# Altium schematic symbol library HJ_AD_SchLib.SchLib: 600 symbols (part 2 of 2)
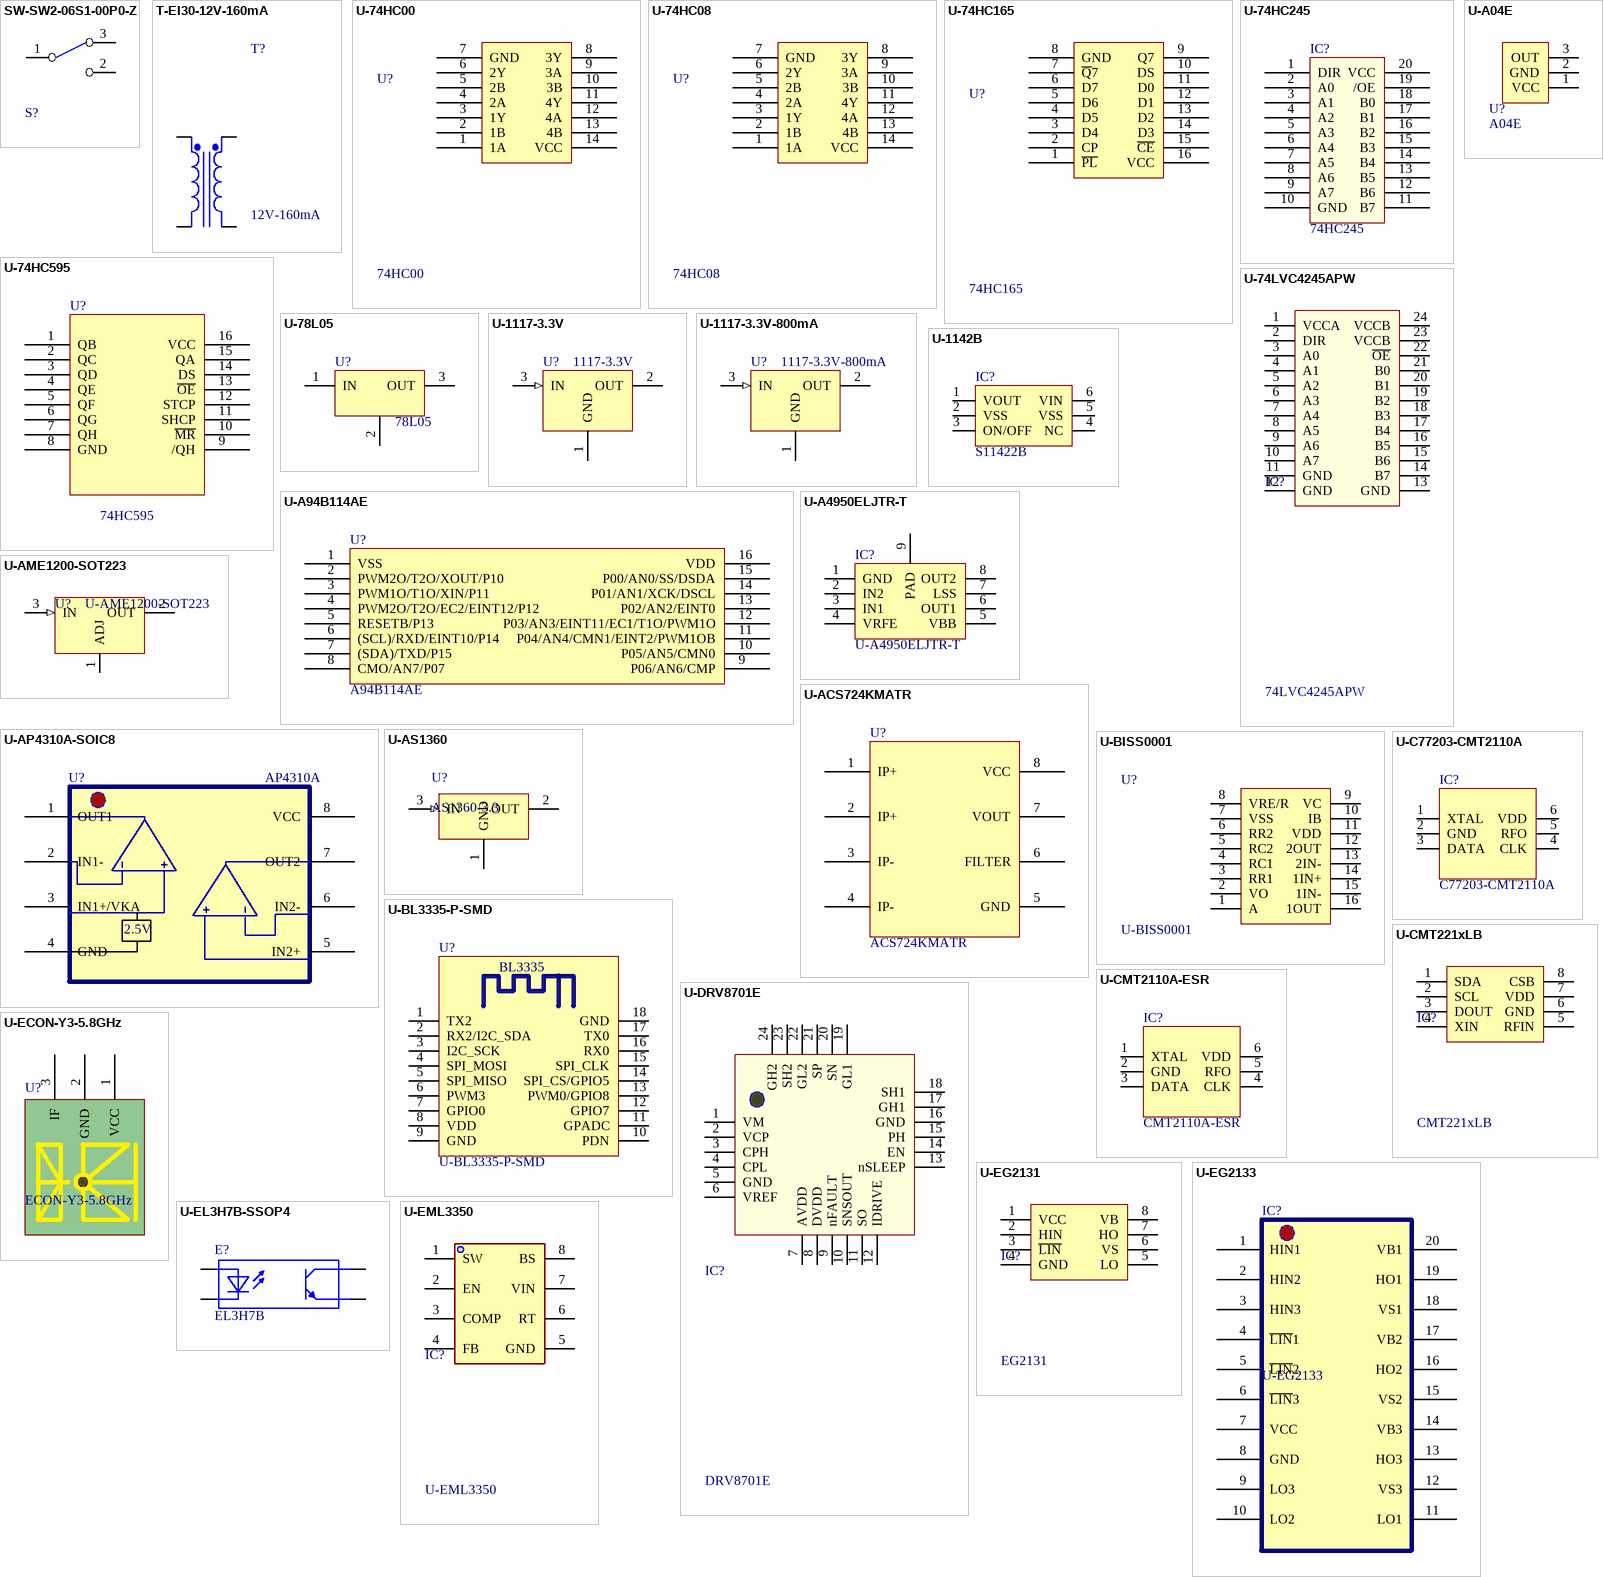
[diagram p22: symbols SW-SW2-06S1-00P0-Z to U-EML3350]

## U-EG2133
designator IC?
TSSOP20
footprint TSSOP20
pins: 1 HIN1, 2 HIN2, 3 HIN3, 4 ~{LIN}1, 5 ~{LIN}2, 6 ~{LIN}3, 7 VCC, 8 GND, 9 LO3, 10 LO2, 11 LO1, 12 VS3, 13 HO3, 14 VB3, 15 VS2, 16 HO2, 17 VB2, 18 VS1, 19 HO1, 20 VB1

## U-EL3H7B-SSOP4
designator E?, comment EL3H7B
SSOP4
footprint SSOP4
pins: 1, 2, 3, 4

## U-EML3350
designator IC?
SOP-8L
footprint SOP8(散热焊盘)
pins: 1 SW, 2 EN, 3 COMP, 4 FB, 5 GND, 6 RT, 7 VIN, 8 BS, 9 PAD hidden to GND

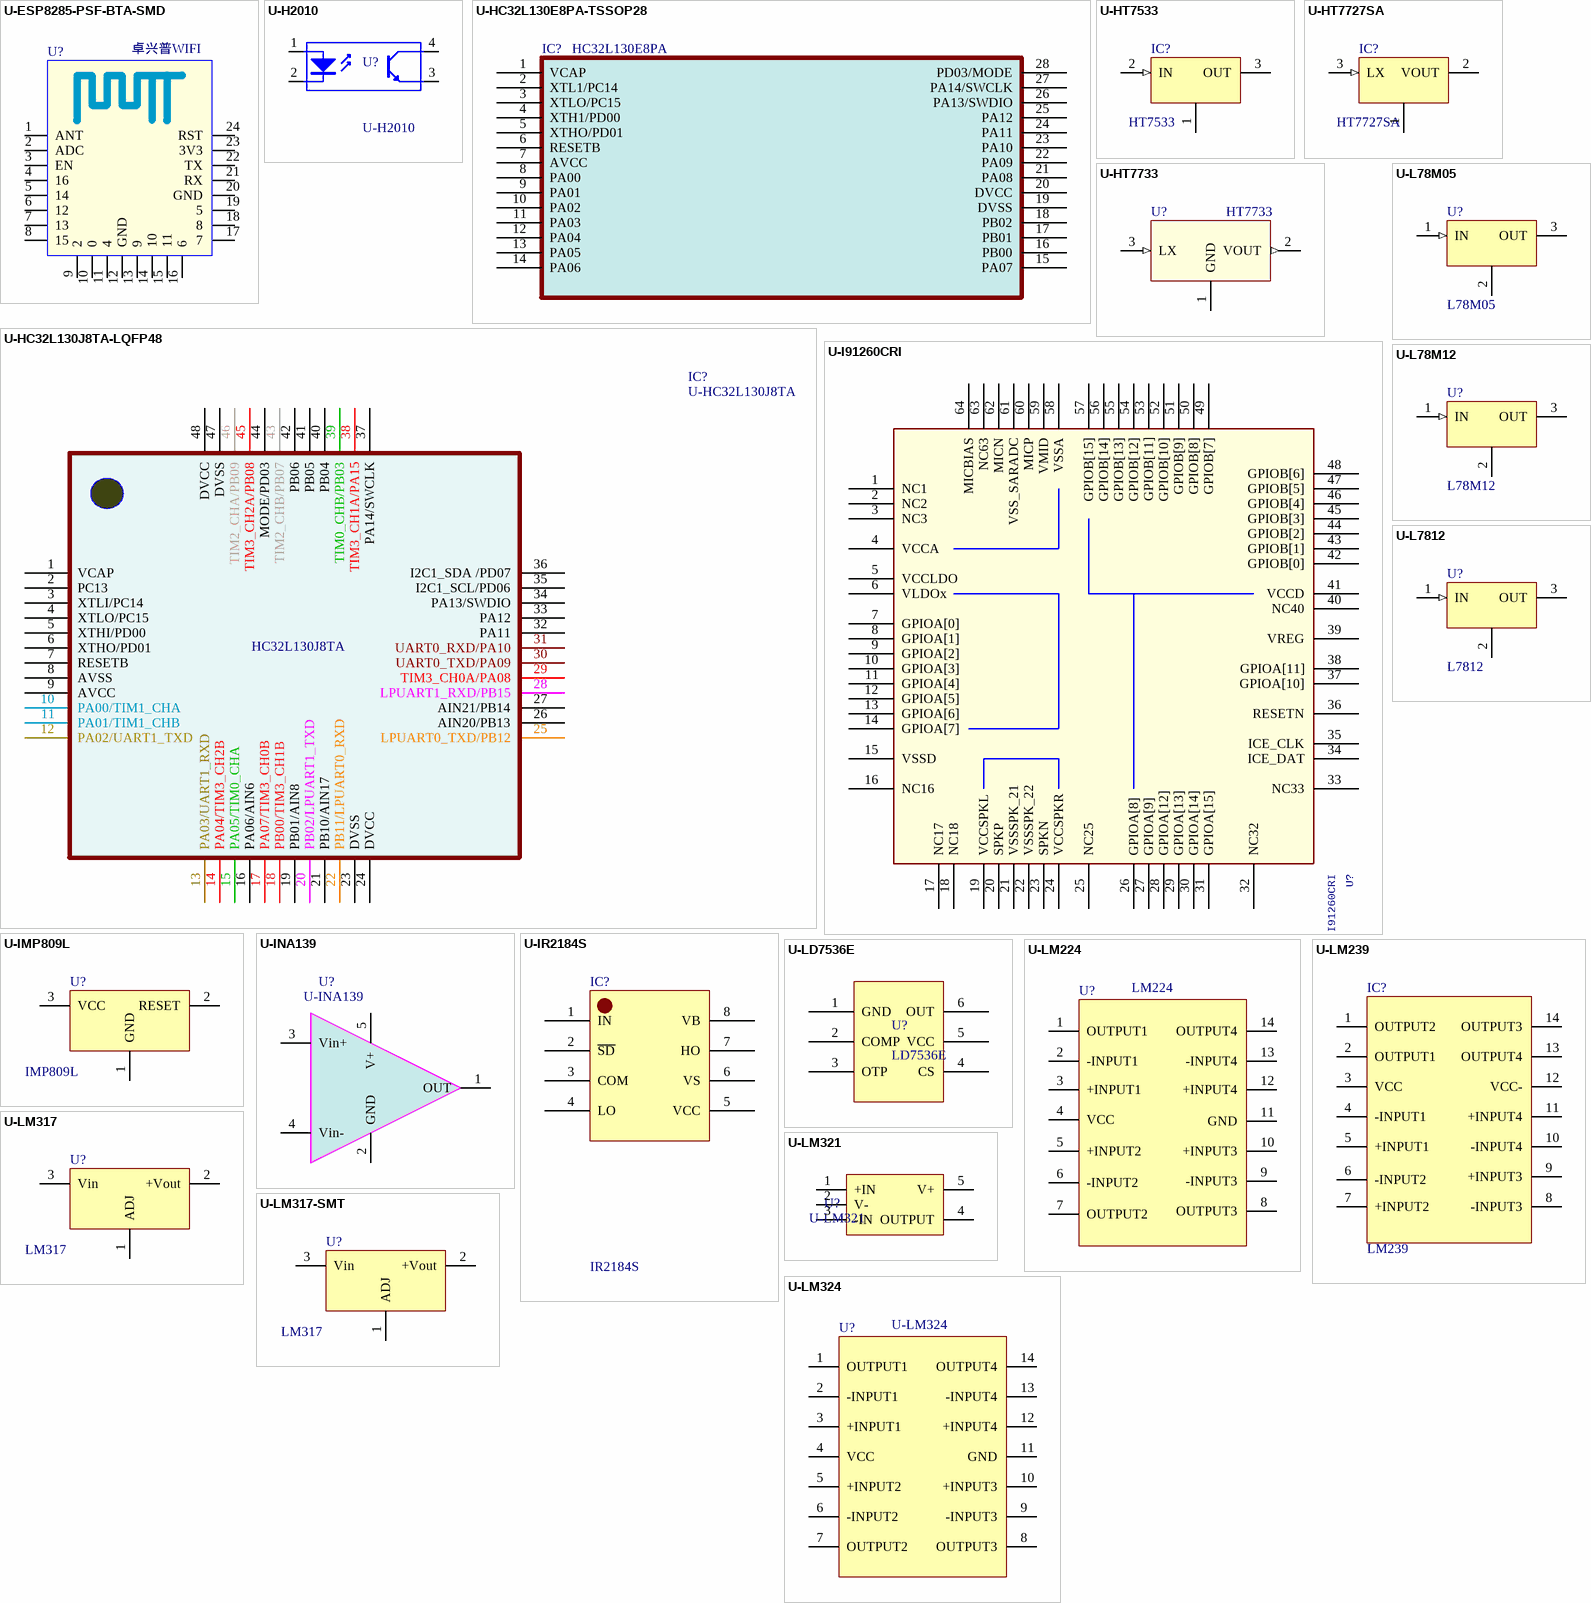
[diagram p12: symbols U-ESP8285-PSF-BTA-SMD to U-LM324]

## U-ESP8285-PSF-BTA-SMD
designator U?, comment 卓兴普WIFI
footprint U-ESP8285-PSF-BTA-SMD (Footprint not found)
pins: 1 ANT, 2 ADC, 3 EN, 4 16, 5 14, 6 12, 7 13, 8 15, 9 2, 10 0, 11 4, 12 GND, 13 9, 14 10, 15 11, 16 6, 17 7, 18 8, 19 5, 20 GND, 21 RX, 22 TX, 23 3V3, 24 RST

## U-H2010
designator U?
footprint H2010
pins: 1 A "Anode", 2 K "Cathode", 3 E "Emitter", 4 C "Collector"

## U-HC32L130E8PA-TSSOP28
designator IC?, comment HC32L130E8PA
TSSOP28
footprint TSSOP28
pins: 1 VCAP, 2 XTL1/PC14, 3 XTLO/PC15, 4 XTH1/PD00, 5 XTHO/PD01, 6 RESETB, 7 AVCC, 8 PA00, 9 PA01, 10 PA02, 11 PA03, 12 PA04, 13 PA05, 14 PA06, 15 PA07, 16 PB00, 17 PB01, 18 PB02, 19 DVSS, 20 DVCC, 21 PA08, 22 PA09, 23 PA10, 24 PA11, 25 PA12, 26 PA13/SWDIO, 27 PA14/SWCLK, 28 PD03/MODE

## U-HC32L130J8TA-LQFP48
designator IC?, comment U-HC32L130J8TA
U-HC32L130J8TA-LQFP48
footprint LQFP48
pins: 1 VCAP, 2 PC13, 3 XTLI/PC14, 4 XTLO/PC15, 5 XTHI/PD00, 6 XTHO/PD01, 7 RESETB, 8 AVSS, 9 AVCC, 10 PA00/TIM1_CHA, 11 PA01/TIM1_CHB, 12 PA02/UART1_TXD, 13 PA03/UART1_RXD, 14 PA04/TIM3_CH2B, 15 PA05/TIM0_CHA  , 16 PA06/AIN6  , 17 PA07/TIM3_CH0B  , 18 PB00/TIM3_CH1B  , 19 PB01/AIN8  , 20 PB02/LPUART1_TXD  , 21 PB10/AIN17  , 22 PB11/LPUART0_RXD  , 23 DVSS, 24 DVCC, 25 LPUART0_TXD/PB12, 26 AIN20/PB13, 27 AIN21/PB14, 28 LPUART1_RXD/PB15, 29 TIM3_CH0A/PA08, 30 UART0_TXD/PA09, 31 UART0_RXD/PA10, 32 PA11, 33 PA12, 34 PA13/SWDIO, 35 I2C1_SCL/PD06, 36 I2C1_SDA /PD07, 37 PA14/SWCLK, 38 TIM3_CH1A/PA15, 39 TIM0_CHB/PB03, 40 PB04, 41 PB05, 42 PB06, 43 TIM2_CHB/PB07, 44 MODE/PD03, 45 TIM3_CH2A/PB08, 46 TIM2_CHA/PB09, 47 DVSS, 48 DVCC
text: HC32L130J8TA

## U-HT7533
designator IC?, comment HT7533
SOT89
footprint SOT89
pins: 1 GND, 2 IN (in), 3 OUT (power)

## U-HT7727SA
designator IC?, comment HT7727SA
SOT89
footprint SOT89
pins: 1 GND, 2 VOUT (power), 3 LX (in)

## U-HT7733
designator U?, comment HT7733
SOT89
footprint SOT89
pins: 1 GND (power), 2 VOUT (out), 3 LX (in)

## U-I91260CRI
designator U?, comment I91260CRI
LQFP64
footprint LC-LQFP-64_7x7x04P
pins: 1 NC1, 2 NC2, 3 NC3, 4 VCCA, 5 VCCLDO, 6 VLDOx, 7 GPIOA[0], 8 GPIOA[1], 9 GPIOA[2], 10 GPIOA[3], 11 GPIOA[4], 12 GPIOA[5], 13 GPIOA[6], 14 GPIOA[7], 15 VSSD, 16 NC16, 17 NC17, 18 NC18, 19 VCCSPKL, 20 SPKP, 21 VSSSPK_21, 22 VSSSPK_22, 23 SPKN, 24 VCCSPKR, 25 NC25, 26 GPIOA[8], 27 GPIOA[9], 28 GPIOA[12], 29 GPIOA[13], 30 GPIOA[14], 31 GPIOA[15], 32 NC32, 33 NC33, 34 ICE_DAT, 35 ICE_CLK, 36 RESETN, 37 GPIOA[10], 38 GPIOA[11], 39 VREG, 40 NC40, 41 VCCD, 42 GPIOB[0], 43 GPIOB[1], 44 GPIOB[2], 45 GPIOB[3], 46 GPIOB[4], 47 GPIOB[5], 48 GPIOB[6], 49 GPIOB[7], 50 GPIOB[8], 51 GPIOB[9], 52 GPIOB[10], 53 GPIOB[11], 54 GPIOB[12], 55 GPIOB[13], 56 GPIOB[14], 57 GPIOB[15], 58 VSSA, 59 VMID, 60 MICP, 61 VSS_SARADC, 62 MICN, 63 NC63, 64 MICBIAS

## U-IMP809L
designator U?, comment IMP809L
SOT23
footprint SOT23-3
pins: 1 GND, 2 RESET, 3 VCC

## U-INA139
designator U?
SOT23-5
footprint SOT23-5
pins: 1 OUT, 2 GND, 3 Vin+, 4 Vin-, 5 V+

## U-IR2184S
designator IC?, comment IR2184S
SOP8
footprint SOP8
pins: 1 IN, 2 ~{SD}, 3 COM, 4 LO, 5 VCC, 6 VS, 7 HO, 8 VB

## U-L78M05
designator U?, comment L78M05
U-L78M05-DPAK
footprint DPAK
pins: 1 IN (in), 2 GND, 3 OUT (power)

## U-L78M12
designator U?, comment L78M12
U-L78M12-DPAK
footprint DPAK
pins: 1 IN (in), 2 GND, 3 OUT (power)

## U-L7812
designator U?, comment L7812
TO220-WHS
footprint TO220-WHS
pins: 1 IN (in), 2 GND, 3 OUT (power)

## U-LD7536E
designator U?, comment LD7536E
SOT23-6
footprint SOT23-6
pins: 1 GND, 2 COMP, 3 OTP, 4 CS, 5 VCC, 6 OUT

## U-LM224
designator U?, comment LM224
SOP14
footprint SOP14
pins: 1 OUTPUT1 "U?", 2 -INPUT1 "RST", 3 +INPUT1 "RST", 4 VCC "RST", 5 +INPUT2 "RST", 6 -INPUT2 "RST", 7 OUTPUT2 "RST", 8 OUTPUT3 "RST", 9 -INPUT3 "RST", 10 +INPUT3 "RST", 11 GND "RST", 12 +INPUT4 "RST", 13 -INPUT4 "RST", 14 OUTPUT4 "RST"

## U-LM239
designator IC?, comment LM239
SOP14
footprint SOP14
pins: 1 OUTPUT2 "RST", 2 OUTPUT1 "U?", 3 VCC "RST", 4 -INPUT1 "RST", 5 +INPUT1 "RST", 6 -INPUT2 "RST", 7 +INPUT2 "RST", 8 -INPUT3 "RST", 9 +INPUT3 "RST", 10 -INPUT4 "RST", 11 +INPUT4 "RST", 12 VCC- "RST", 13 OUTPUT4 "RST", 14 OUTPUT3 "RST"

## U-LM317
designator U?, comment LM317
TO220-WHS
footprint TO220-WHS
pins: 1 ADJ, 2 +Vout, 3 Vin

## U-LM317-SMT
designator U?, comment LM317
TO263
footprint TO263
pins: 1 ADJ, 2 +Vout, 3 Vin

## U-LM321
designator U?
SOT23-5
footprint SOT23-5
pins: 1 +IN, 2 V-, 3 -IN (power), 4 OUTPUT (power), 5 V+ (power)

## U-LM324
designator U?
U-LM324-SOIC14
footprint SOP14
pins: 1 OUTPUT1 "U?", 2 -INPUT1 "RST", 3 +INPUT1 "RST", 4 VCC "RST", 5 +INPUT2 "RST", 6 -INPUT2 "RST", 7 OUTPUT2 "RST", 8 OUTPUT3 "RST", 9 -INPUT3 "RST", 10 +INPUT3 "RST", 11 GND "RST", 12 +INPUT4 "RST", 13 -INPUT4 "RST", 14 OUTPUT4 "RST"

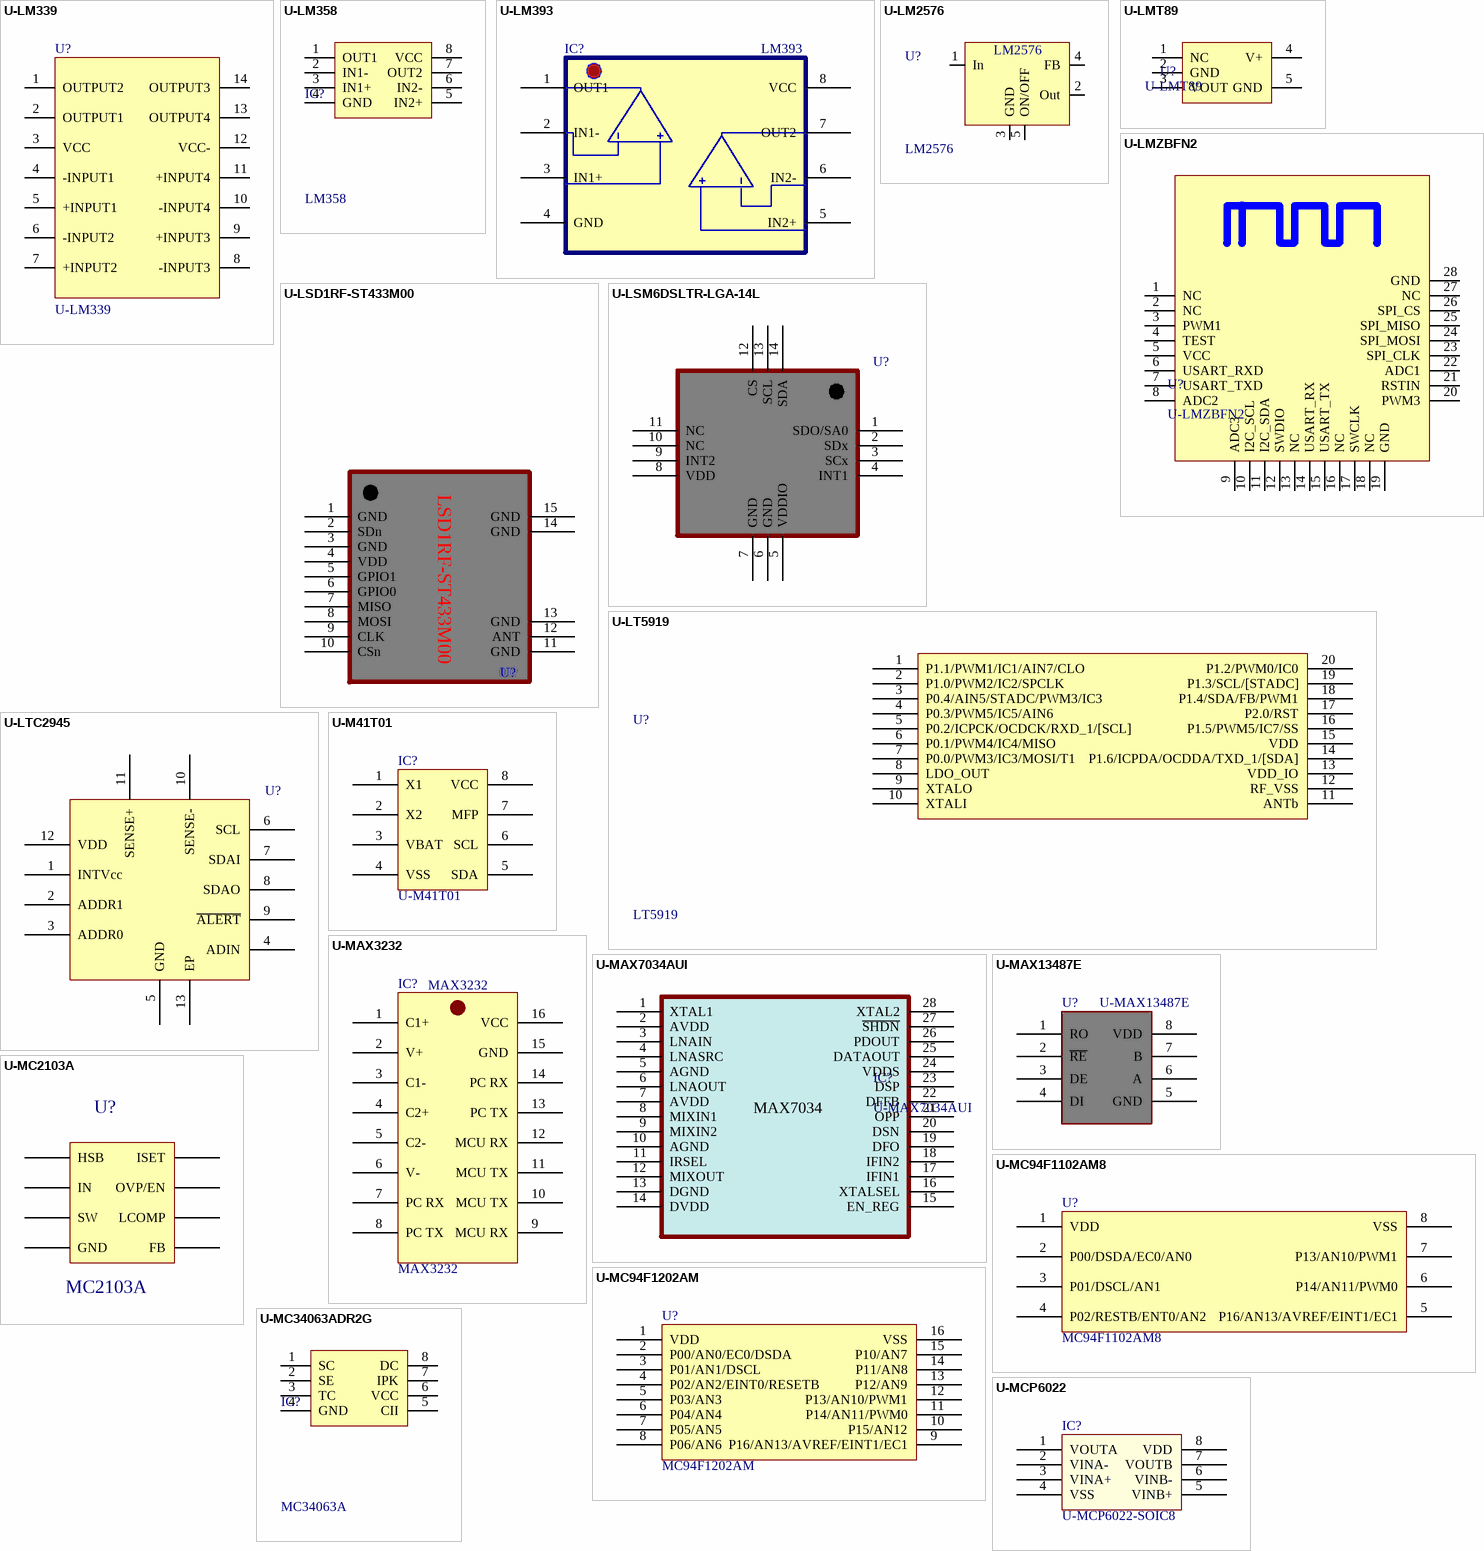
[diagram p13: symbols U-LM339 to U-MCP6022]

## U-LM339
designator U?
U-LM339-SOIC14
footprint SOP14
pins: 1 OUTPUT2 "RST", 2 OUTPUT1 "U?", 3 VCC "RST", 4 -INPUT1 "RST", 5 +INPUT1 "RST", 6 -INPUT2 "RST", 7 +INPUT2 "RST", 8 -INPUT3 "RST", 9 +INPUT3 "RST", 10 -INPUT4 "RST", 11 +INPUT4 "RST", 12 VCC- "RST", 13 OUTPUT4 "RST", 14 OUTPUT3 "RST"

## U-LM358
designator IC?, comment LM358
SOP8
footprint SOP8
pins: 1 OUT1, 2 IN1-, 3 IN1+, 4 GND, 5 IN2+, 6 IN2-, 7 OUT2, 8 VCC

## U-LM393
designator IC?, comment LM393
SOP8
footprint SOP8
pins: 1 OUT1, 2 IN1-, 3 IN1+, 4 GND, 5 IN2+, 6 IN2-, 7 OUT2, 8 VCC

## U-LM2576
designator U?, comment LM2576
U-LM2576S-12-TO263
footprint TO263-5
pins: 1 In, 2 Out, 3 GND, 4 FB, 5 ON/OFF

## U-LMT89
designator U?
footprint SC70-5
pins: 1 NC, 2 GND, 3 VOUT (power), 4 V+ (power), 5 GND (power)

## U-LMZBFN2
designator U?
footprint LMZBFN2
pins: 1 NC, 2 NC, 3 PWM1, 4 TEST, 5 VCC, 6 USART_RXD, 7 USART_TXD, 8 ADC2, 9 ADC3, 10 I2C_SCL, 11 I2C_SDA, 12 SWDIO, 13 NC, 14 USART_RX, 15 USART_TX, 16 NC, 17 SWCLK, 18 NC, 19 GND, 20 PWM3, 21 RSTIN, 22 ADC1, 23 SPI_CLK, 24 SPI_MOSI, 25 SPI_MISO, 26 SPI_CS, 27 NC, 28 GND

## U-LSD1RF-ST433M00
designator U?, comment LSD1RF-ST433M00  (value not drawn)
footprint LSD1RF-ST433M00
pins: 1 GND, 2 SDn, 3 GND, 4 VDD, 5 GPIO1, 6 GPIO0, 7 MISO, 8 MOSI, 9 CLK, 10 CSn, 11 GND, 12 ANT, 13 GND, 14 GND, 15 GND

## U-LSM6DSLTR-LGA-14L
designator U?, comment LSM6DSLTR  (value not drawn)
footprint LGA-14L
pins: 1 SDO/SA0, 2 SDx, 3 SCx, 4 INT1, 5 VDDIO, 6 GND, 7 GND, 8 VDD, 9 INT2, 10 NC, 11 NC, 12 CS, 13 SCL, 14 SDA

## U-LT5919
designator U?, comment LT5919
TSSOP20
footprint TSSOP20
pins: 1 P1.1/PWM1/IC1/AIN7/CLO, 2 P1.0/PWM2/IC2/SPCLK, 3 P0.4/AIN5/STADC/PWM3/IC3, 4 P0.3/PWM5/IC5/AIN6, 5 P0.2/ICPCK/OCDCK/RXD_1/[SCL], 6 P0.1/PWM4/IC4/MISO, 7 P0.0/PWM3/IC3/MOSI/T1, 8 LDO_OUT, 9 XTALO, 10 XTALI, 11 ANTb, 12 RF_VSS, 13 VDD_IO, 14 P1.6/ICPDA/OCDDA/TXD_1/[SDA], 15 VDD, 16 P1.5/PWM5/IC7/SS, 17 P2.0/RST, 18 P1.4/SDA/FB/PWM1, 19 P1.3/SCL/[STADC], 20 P1.2/PWM0/IC0

## U-LTC2945
designator U?, comment LTC2945  (value not drawn)
footprint QFN12-3*3
pins: 1 INTVcc, 2 ADDR1, 3 ADDR0, 4 ADIN, 5 GND, 6 SCL, 7 SDAI, 8 SDAO, 9 ~{ALERT}, 10 SENSE-, 11 SENSE+, 12 VDD, 13 EP

## U-M41T01
designator IC?
SOP8
footprint SOP8
pins: 1 X1, 2 X2, 3 VBAT, 4 VSS, 5 SDA, 6 SCL, 7 MFP, 8 VCC

## U-MAX3232
designator IC?, comment MAX3232
U-MAX3232-SOP16
footprint SOP16
pins: 1 C1+, 2 V+, 3 C1-, 4 C2+, 5 C2-, 6 V-, 7 PC RX, 8 PC TX, 9 MCU RX, 10 MCU TX, 11 MCU TX, 12 MCU RX, 13 PC TX, 14 PC RX, 15 GND, 16 VCC

## U-MAX7034AUI
designator IC?
TSSOP28
footprint TSSOP28
pins: 1 XTAL1, 2 AVDD, 3 LNAIN, 4 LNASRC, 5 AGND, 6 LNAOUT, 7 AVDD, 8 MIXIN1, 9 MIXIN2, 10 AGND, 11 IRSEL, 12 MIXOUT, 13 DGND, 14 DVDD, 15 EN_REG, 16 XTALSEL, 17 IFIN1, 18 IFIN2, 19 DFO, 20 DSN, 21 OPP, 22 DFFB, 23 DSP, 24 VDDS, 25 DATAOUT, 26 PDOUT, 27 ~{SHDN}, 28 XTAL2
text: MAX7034

## U-MAX13487E
designator U?
SOP8
footprint SOP8
pins: 1 RO, 2 ~{RE}, 3 DE, 4 DI, 5 GND, 6 A, 7 B, 8 VDD

## U-MC94F1102AM8
designator U?, comment MC94F1102AM8
SOP8
footprint SOP8
pins: 1 VDD, 2 P00/DSDA/EC0/AN0 (hiz), 3 P01/DSCL/AN1, 4 P02/RESTB/ENT0/AN2, 5 P16/AN13/AVREF/EINT1/EC1, 6 P14/AN11/PWM0, 7 P13/AN10/PWM1, 8 VSS

## U-MC94F1202AM
designator U?, comment MC94F1202AM
SOP16
footprint SOP16
pins: 1 VDD, 2 P00/AN0/EC0/DSDA, 3 P01/AN1/DSCL, 4 P02/AN2/EINT0/RESETB, 5 P03/AN3, 6 P04/AN4, 7 P05/AN5, 8 P06/AN6, 9 P16/AN13/AVREF/EINT1/EC1, 10 P15/AN12, 11 P14/AN11/PWM0, 12 P13/AN10/PWM1, 13 P12/AN9, 14 P11/AN8, 15 P10/AN7, 16 VSS

## U-MC2103A
designator U?, comment MC2103A
SOP-8EP
footprint SOP-8EP
pins: 1 HSB, 2 IN, 3 SW, 4 GND, 5 FB, 6 LCOMP, 7 OVP/EN, 8 ISET

## U-MC34063ADR2G
designator IC?, comment MC34063A
SOP8
footprint SOP8
pins: 1 SC, 2 SE, 3 TC, 4 GND, 5 CII, 6 VCC, 7 IPK, 8 DC

## U-MCP6022
designator IC?, comment U-MCP6022-SOIC8
SOP8
footprint SOP8
pins: 1 VOUTA, 2 VINA-, 3 VINA+, 4 VSS, 5 VINB+, 6 VINB-, 7 VOUTB, 8 VDD

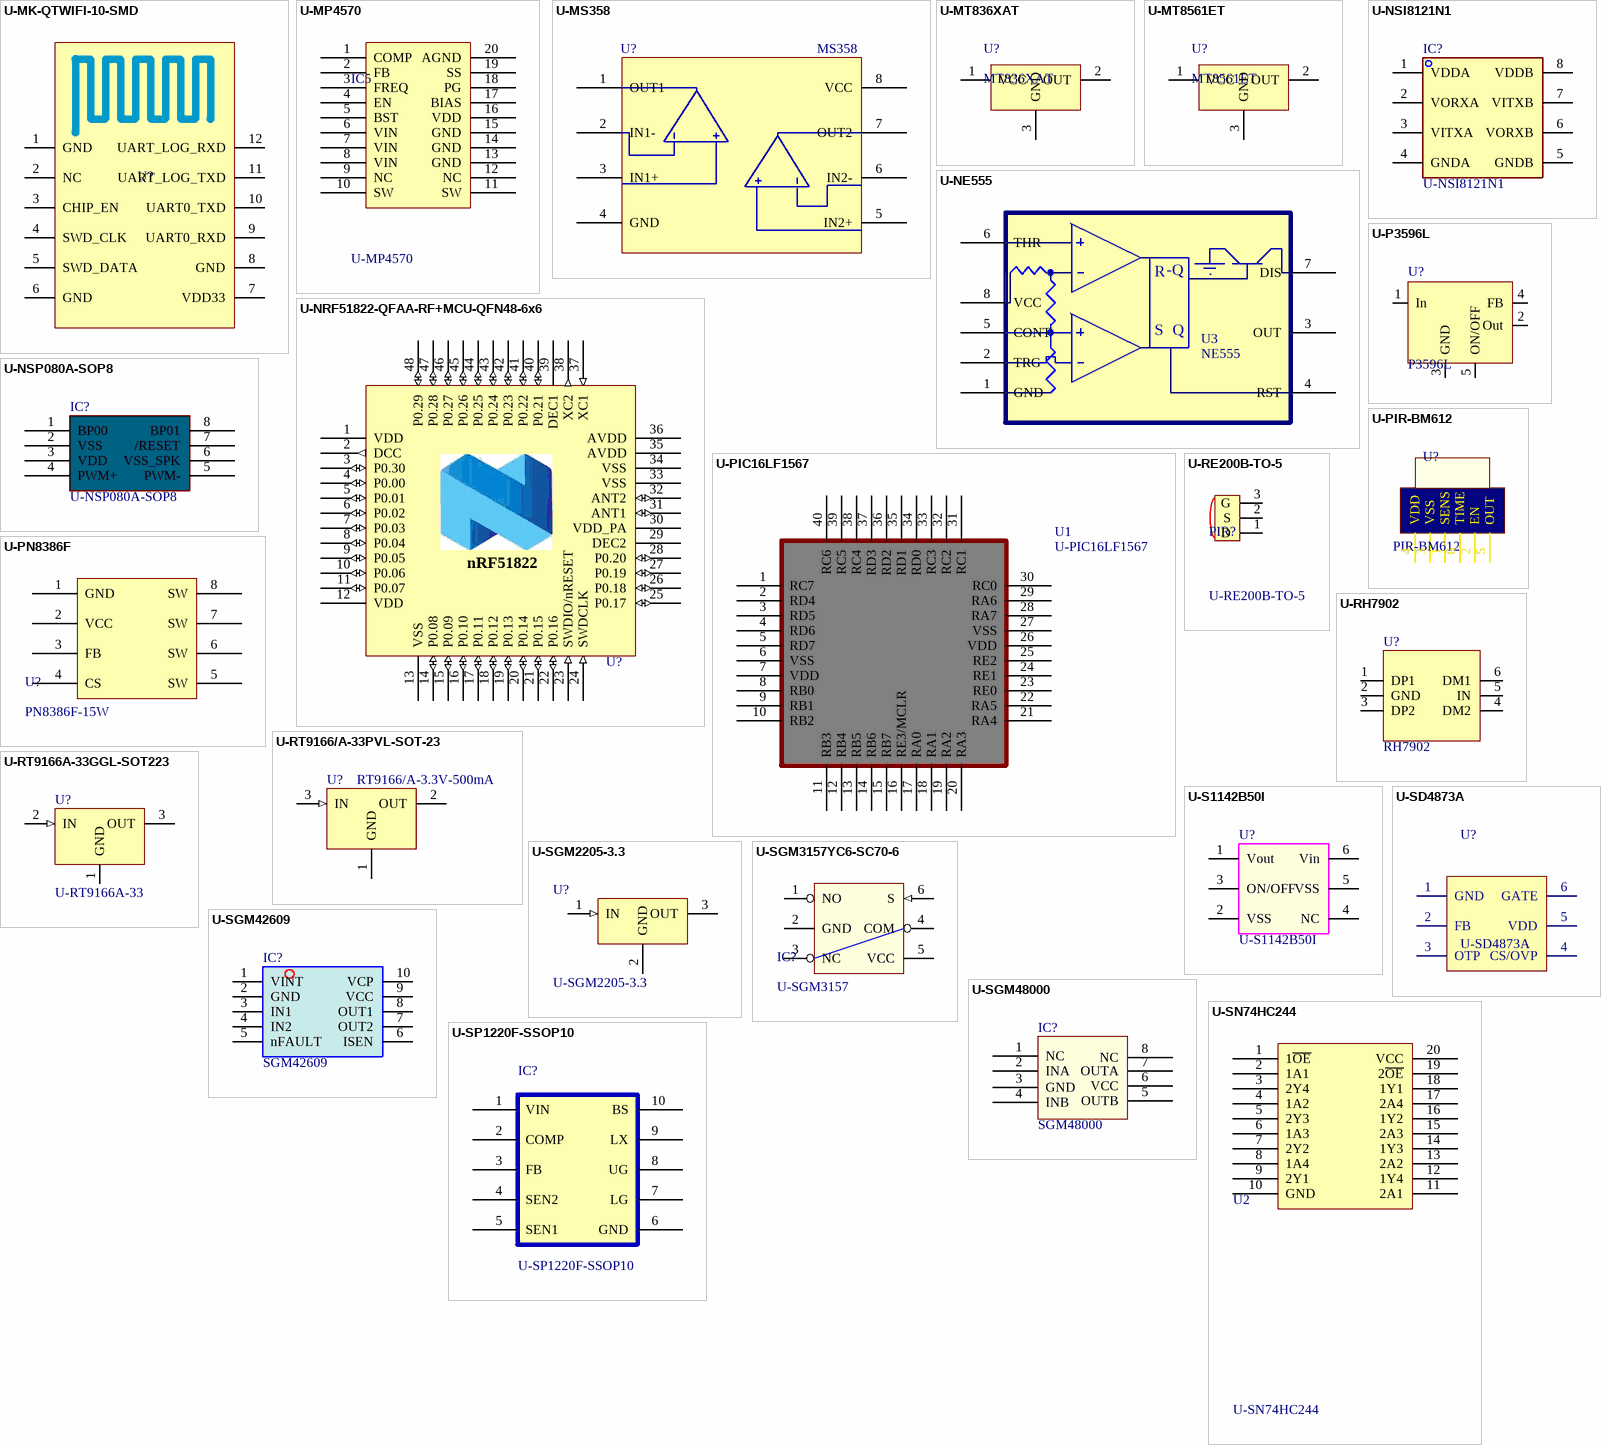
[diagram p14: symbols U-MK-QTWIFI-10-SMD to U-SP1220F-SSOP10]

## U-MK-QTWIFI-10-SMD
designator U?
footprint U-MK-QTWIFI-10-SMD
pins: 1 GND, 2 NC, 3 CHIP_EN, 4 SWD_CLK, 5 SWD_DATA, 6 GND, 7 VDD33, 8 GND, 9 UART0_RXD, 10 UART0_TXD, 11 UART_LOG_TXD, 12 UART_LOG_RXD

## U-MP4570
designator IC5
TSSOP-20EP
footprint TSS0P20-EP
pins: 0 hidden, 1 COMP, 2 FB, 3 FREQ, 4 EN, 5 BST, 6 VIN, 7 VIN, 8 VIN, 9 NC, 10 SW, 11 SW, 12 NC, 13 GND, 14 GND, 15 GND, 16 VDD, 17 BIAS, 18 PG, 19 SS, 20 AGND

## U-MS358
designator U?, comment MS358
SOP8
footprint SOP8
pins: 1 OUT1, 2 IN1-, 3 IN1+, 4 GND, 5 IN2+, 6 IN2-, 7 OUT2, 8 VCC

## U-MT836XAT
designator U?, comment MT836XAT
SOT23-3
footprint SOT23-3
pins: 1 VCC, 2 OUT (power), 3 GND

## U-MT8561ET
designator U?, comment MT8561ET
SOT23-3
footprint SOT23-3
pins: 1 VCC, 2 OUT (power), 3 GND

## U-NE555
designator U3, comment NE555
SOP8
footprint SOP8
pins: 1 GND, 2 TRG, 3 OUT, 4 RST, 5 CONT, 6 THR, 7 DIS, 8 VCC
text: R; -Q; S; Q

## U-NRF51822-QFAA-RF+MCU-QFN48-6x6
designator U?, comment U-NRF51822  (value not drawn)
QFN48
footprint QFN48-6*6
pins: 1 VDD (power), 2 DCC (out), 3 P0.30 (io), 4 P0.00 (io), 5 P0.01 (io), 6 P0.02 (io), 7 P0.03 (io), 8 P0.04 (io), 9 P0.05 (io), 10 P0.06 (io), 11 P0.07 (io), 12 VDD (power), 13 VSS (power), 14 P0.08 (io), 15 P0.09 (io), 16 P0.10 (io), 17 P0.11 (io), 18 P0.12 (io), 19 P0.13 (io), 20 P0.14 (io), 21 P0.15 (io), 22 P0.16 (io), 23 SWDIO/nRESET (in), 24 SWDCLK (in), 25 P0.17 (io), 26 P0.18 (io), 27 P0.19 (io), 28 P0.20 (io), 29 DEC2 (power), 30 VDD_PA (power), 31 ANT1 (io), 32 ANT2 (io), 33 VSS (power), 34 VSS (power), 35 AVDD (power), 36 AVDD (power), 37 XC1 (in), 38 XC2 (out), 39 DEC1 (power), 40 P0.21 (io), 41 P0.22 (io), 42 P0.23 (io), 43 P0.24 (io), 44 P0.25 (io), 45 P0.26 (io), 46 P0.27 (io), 47 P0.28 (io), 48 P0.29 (io), 49 (power) hidden to GND
text: nRF51822

## U-NSI8121N1
designator IC?
SOIC-8
footprint SOIC8
pins: 1 VDDA, 2 VORXA, 3 VITXA, 4 GNDA, 5 GNDB, 6 VORXB, 7 VITXB, 8 VDDB

## U-NSP080A-SOP8
designator IC?
SOP8
footprint SOP8
pins: 1 BP00, 2 VSS, 3 VDD, 4 PWM+, 5 PWM-, 6 VSS_SPK, 7 /RESET, 8 BP01

## U-P3596L
designator U?, comment P3596L
TO263-5
footprint TO263-5
pins: 1 In, 2 Out, 3 GND, 4 FB, 5 ON/OFF

## U-PIC16LF1567
designator U1
footprint UQFN40 (Footprint not found)
pins: 1 RC7, 2 RD4, 3 RD5, 4 RD6, 5 RD7, 6 VSS, 7 VDD, 8 RB0, 9 RB1, 10 RB2, 11 RB3, 12 RB4, 13 RB5, 14 RB6, 15 RB7, 16 RE3/MCLR, 17 RA0, 18 RA1, 19 RA2, 20 RA3, 21 RA4, 22 RA5, 23 RE0, 24 RE1, 25 RE2, 26 VDD, 27 VSS, 28 RA7, 29 RA6, 30 RC0, 31 RC1, 32 RC2, 33 RC3, 34 RD0, 35 RD1, 36 RD2, 37 RD3, 38 RC4, 39 RC5, 40 RC6

## U-PIR-BM612
designator U?, comment PIR-BM612
footprint PIR-BM612
pins: 1 SENS, 2 EN, 3 VSS, 4 VDD, 5 OUT, 6 TIME
text: +

## U-PN8386F
designator U?, comment PN8386F-15W
SOP8
footprint SOP8
pins: 1 GND, 2 VCC, 3 FB, 4 CS, 5 SW, 6 SW, 7 SW, 8 SW

## U-RE200B-TO-5
designator PIR?
footprint TO-5
pins: 1 D, 2 S, 3 G

## U-RH7902
designator U?, comment RH7902
SOT23-6
footprint SOT23-6
pins: 1 DP1, 2 GND, 3 DP2, 4 DM2, 5 IN, 6 DM1

## U-RT9166/A-33PVL-SOT-23
designator U?, comment RT9166/A-3.3V-500mA
SOT-23
footprint SOT23-3
pins: 1 GND, 2 OUT (power), 3 IN (in)

## U-RT9166A-33GGL-SOT223
designator U?, comment U-RT9166A-33
SOT223
footprint SOT223
pins: 1 GND, 2 IN (in), 3 OUT (power)

## U-S1142B50I
designator U?
footprint HSOP-6
pins: 1 Vout, 2 VSS, 3 ON/OFF, 4 NC, 5 VSS, 6 Vin

## U-SD4873A
designator U?
SOT23-6
footprint SOT23-6
pins: 1 GND, 2 FB, 3 OTP, 4 CS/OVP, 5 VDD, 6 GATE

## U-SGM2205-3.3
designator U?
SOT223
footprint SOT223
pins: 1 IN (in), 2 GND, 3 OUT (power)

## U-SGM3157YC6-SC70-6
designator IC?, comment U-SGM3157
SC70-6
footprint SC70-6
pins: 1 NO, 2 GND, 3 NC, 4 COM, 5 VCC, 6 S (in)

## U-SGM42609
designator IC?, comment SGM42609
footprint MSOP10
pins: 1 VINT, 2 GND, 3 IN1, 4 IN2, 5 nFAULT, 6 ISEN, 7 OUT2, 8 OUT1, 9 VCC, 10 VCP

## U-SGM48000
designator IC?, comment SGM48000
SOP8
footprint SOP8
pins: 1 NC, 2 INA, 3 GND, 4 INB, 5 OUTB, 6 VCC, 7 OUTA, 8 NC

## U-SN74HC244
designator U2
TSSOP20
footprint TSSOP20
pins: 1 1~{OE}, 2 1A1, 3 2Y4, 4 1A2, 5 2Y3, 6 1A3, 7 2Y2, 8 1A4, 9 2Y1, 10 GND, 11 2A1, 12 1Y4, 13 2A2, 14 1Y3, 15 2A3, 16 1Y2, 17 2A4, 18 1Y1, 19 2~{OE}, 20 VCC

## U-SP1220F-SSOP10
designator IC?
SSOP10
footprint SSOP10
pins: 1 VIN, 2 COMP, 3 FB, 4 SEN2, 5 SEN1, 6 GND, 7 LG, 8 UG, 9 LX, 10 BS

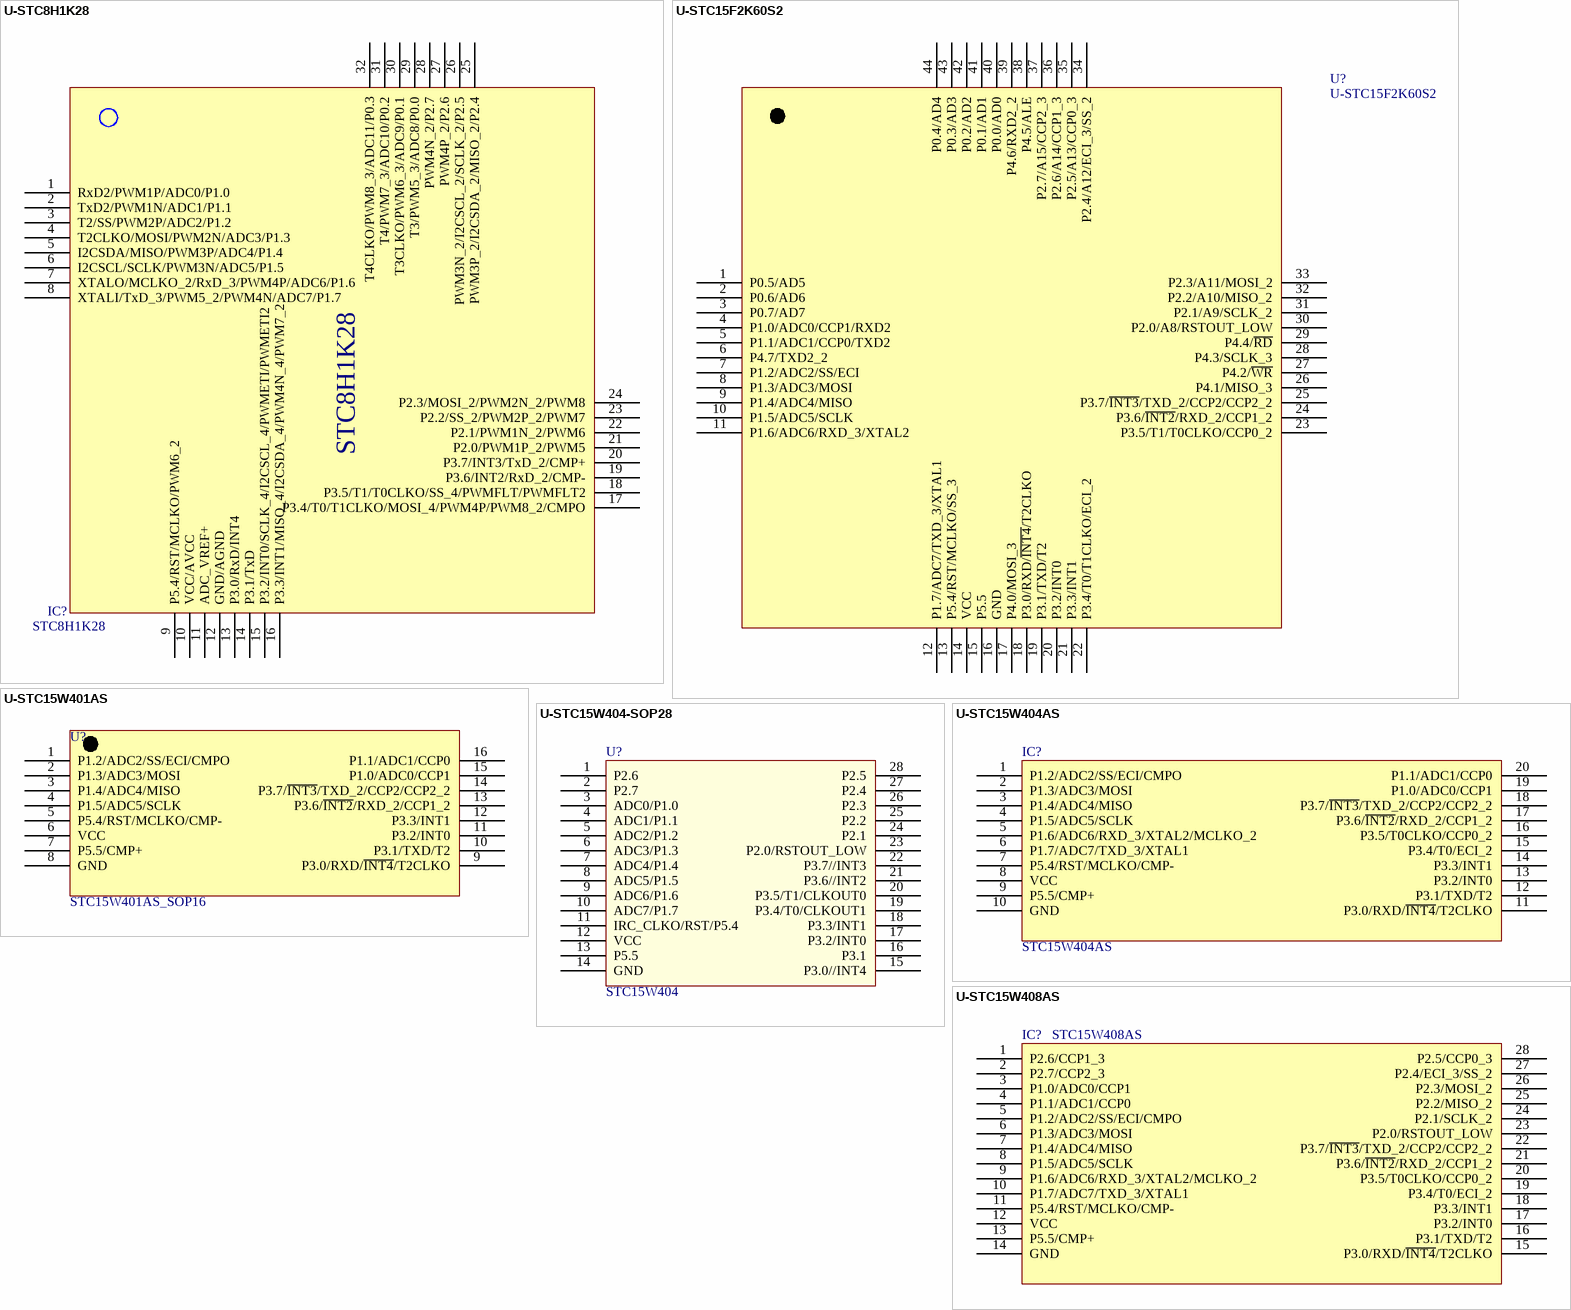
[diagram p15: symbols U-STC8H1K28 to U-STC15W408AS]

## U-STC8H1K28
designator IC?, comment STC8H1K28
LQFP32
footprint LQFP32
pins: 1 RxD2/PWM1P/ADC0/P1.0, 2 TxD2/PWM1N/ADC1/P1.1, 3 T2/SS/PWM2P/ADC2/P1.2, 4 T2CLKO/MOSI/PWM2N/ADC3/P1.3, 5 I2CSDA/MISO/PWM3P/ADC4/P1.4, 6 I2CSCL/SCLK/PWM3N/ADC5/P1.5, 7 XTALO/MCLKO_2/RxD_3/PWM4P/ADC6/P1.6, 8 XTALI/TxD_3/PWM5_2/PWM4N/ADC7/P1.7, 9 P5.4/RST/MCLKO/PWM6_2, 10 VCC/AVCC, 11 ADC_VREF+, 12 GND/AGND, 13 P3.0/RxD/INT4, 14 P3.1/TxD, 15 P3.2/INT0/SCLK_4/I2CSCL_4/PWMETI/PWMETI2, 16 P3.3/INT1/MISO_4/I2CSDA_4/PWM4N_4/PWM7_2, 17 P3.4/T0/T1CLKO/MOSI_4/PWM4P/PWM8_2/CMPO, 18 P3.5/T1/T0CLKO/SS_4/PWMFLT/PWMFLT2, 19 P3.6/INT2/RxD_2/CMP-, 20 P3.7/INT3/TxD_2/CMP+, 21 P2.0/PWM1P_2/PWM5, 22 P2.1/PWM1N_2/PWM6, 23 P2.2/SS_2/PWM2P_2/PWM7, 24 P2.3/MOSI_2/PWM2N_2/PWM8, 25 PWM3P_2/I2CSDA_2/MISO_2/P2.4, 26 PWM3N_2/I2CSCL_2/SCLK_2/P2.5, 27 PWM4P_2/P2.6, 28 PWM4N_2/P2.7, 29 T3/PWM5_3/ADC8/P0.0, 30 T3CLKO/PWM6_3/ADC9/P0.1, 31 T4/PWM7_3/ADC10/P0.2, 32 T4CLKO/PWM8_3/ADC11/P0.3

## U-STC15F2K60S2
designator U?
LQFP44
footprint LQFP44
pins: 1 P0.5/AD5, 2 P0.6/AD6, 3 P0.7/AD7, 4 P1.0/ADC0/CCP1/RXD2, 5 P1.1/ADC1/CCP0/TXD2, 6 P4.7/TXD2_2, 7 P1.2/ADC2/SS/ECI, 8 P1.3/ADC3/MOSI, 9 P1.4/ADC4/MISO, 10 P1.5/ADC5/SCLK, 11 P1.6/ADC6/RXD_3/XTAL2, 12 P1.7/ADC7/TXD_3/XTAL1, 13 P5.4/RST/MCLKO/SS_3, 14 VCC, 15 P5.5, 16 GND, 17 P4.0/MOSI_3, 18 P3.0/RXD/~{INT4}/T2CLKO, 19 P3.1/TXD/T2, 20 P3.2/INT0, 21 P3.3/INT1, 22 P3.4/T0/T1CLKO/ECI_2, 23 P3.5/T1/T0CLKO/CCP0_2, 24 P3.6/~{INT2}/RXD_2/CCP1_2, 25 P3.7/~{INT3}/TXD_2/CCP2/CCP2_2, 26 P4.1/MISO_3, 27 P4.2/~{WR}, 28 P4.3/SCLK_3, 29 P4.4/~{RD}, 30 P2.0/A8/RSTOUT_LOW, 31 P2.1/A9/SCLK_2, 32 P2.2/A10/MISO_2, 33 P2.3/A11/MOSI_2, 34 P2.4/A12/ECI_3/SS_2, 35 P2.5/A13/CCP0_3, 36 P2.6/A14/CCP1_3, 37 P2.7/A15/CCP2_3, 38 P4.5/ALE, 39 P4.6/RXD2_2, 40 P0.0/AD0, 41 P0.1/AD1, 42 P0.2/AD2, 43 P0.3/AD3, 44 P0.4/AD4
2 alternate drawings of the same symbol

## U-STC15W401AS
designator U?, comment STC15W401AS_SOP16
SOP16
footprint SOP16
pins: 1 P1.2/ADC2/SS/ECI/CMPO, 2 P1.3/ADC3/MOSI, 3 P1.4/ADC4/MISO, 4 P1.5/ADC5/SCLK, 5 P5.4/RST/MCLKO/CMP-, 6 VCC, 7 P5.5/CMP+, 8 GND, 9 P3.0/RXD/~{INT4}/T2CLKO, 10 P3.1/TXD/T2, 11 P3.2/INT0, 12 P3.3/INT1, 13 P3.6/~{INT2}/RXD_2/CCP1_2, 14 P3.7/~{INT3}/TXD_2/CCP2/CCP2_2, 15 P1.0/ADC0/CCP1, 16 P1.1/ADC1/CCP0

## U-STC15W404-SOP28
designator U?, comment STC15W404
SOP28
footprint SOP28
pins: 1 P2.6, 2 P2.7, 3 ADC0/P1.0, 4 ADC1/P1.1, 5 ADC2/P1.2, 6 ADC3/P1.3, 7 ADC4/P1.4, 8 ADC5/P1.5, 9 ADC6/P1.6, 10 ADC7/P1.7, 11 IRC_CLKO/RST/P5.4, 12 VCC, 13 P5.5, 14 GND, 15 P3.0//INT4, 16 P3.1, 17 P3.2/INT0, 18 P3.3/INT1, 19 P3.4/T0/CLKOUT1, 20 P3.5/T1/CLKOUT0, 21 P3.6//INT2, 22 P3.7//INT3, 23 P2.0/RSTOUT_LOW, 24 P2.1, 25 P2.2, 26 P2.3, 27 P2.4, 28 P2.5

## U-STC15W404AS
designator IC?, comment STC15W404AS
U-STC15W404AS-TSSOP20
footprint TSSOP20
pins: 1 P1.2/ADC2/SS/ECI/CMPO, 2 P1.3/ADC3/MOSI, 3 P1.4/ADC4/MISO, 4 P1.5/ADC5/SCLK, 5 P1.6/ADC6/RXD_3/XTAL2/MCLKO_2, 6 P1.7/ADC7/TXD_3/XTAL1, 7 P5.4/RST/MCLKO/CMP-, 8 VCC, 9 P5.5/CMP+, 10 GND, 11 P3.0/RXD/~{INT4}/T2CLKO, 12 P3.1/TXD/T2, 13 P3.2/INT0, 14 P3.3/INT1, 15 P3.4/T0/ECI_2, 16 P3.5/T0CLKO/CCP0_2, 17 P3.6/~{INT2}/RXD_2/CCP1_2, 18 P3.7/~{INT3}/TXD_2/CCP2/CCP2_2, 19 P1.0/ADC0/CCP1, 20 P1.1/ADC1/CCP0

## U-STC15W408AS
designator IC?, comment STC15W408AS
U-STC15W408AS-TSSOP28
footprint TSSOP28
pins: 1 P2.6/CCP1_3, 2 P2.7/CCP2_3, 3 P1.0/ADC0/CCP1, 4 P1.1/ADC1/CCP0, 5 P1.2/ADC2/SS/ECI/CMPO, 6 P1.3/ADC3/MOSI, 7 P1.4/ADC4/MISO, 8 P1.5/ADC5/SCLK, 9 P1.6/ADC6/RXD_3/XTAL2/MCLKO_2, 10 P1.7/ADC7/TXD_3/XTAL1, 11 P5.4/RST/MCLKO/CMP-, 12 VCC, 13 P5.5/CMP+, 14 GND, 15 P3.0/RXD/~{INT4}/T2CLKO, 16 P3.1/TXD/T2, 17 P3.2/INT0, 18 P3.3/INT1, 19 P3.4/T0/ECI_2, 20 P3.5/T0CLKO/CCP0_2, 21 P3.6/~{INT2}/RXD_2/CCP1_2, 22 P3.7/~{INT3}/TXD_2/CCP2/CCP2_2, 23 P2.0/RSTOUT_LOW, 24 P2.1/SCLK_2, 25 P2.2/MISO_2, 26 P2.3/MOSI_2, 27 P2.4/ECI_3/SS_2, 28 P2.5/CCP0_3

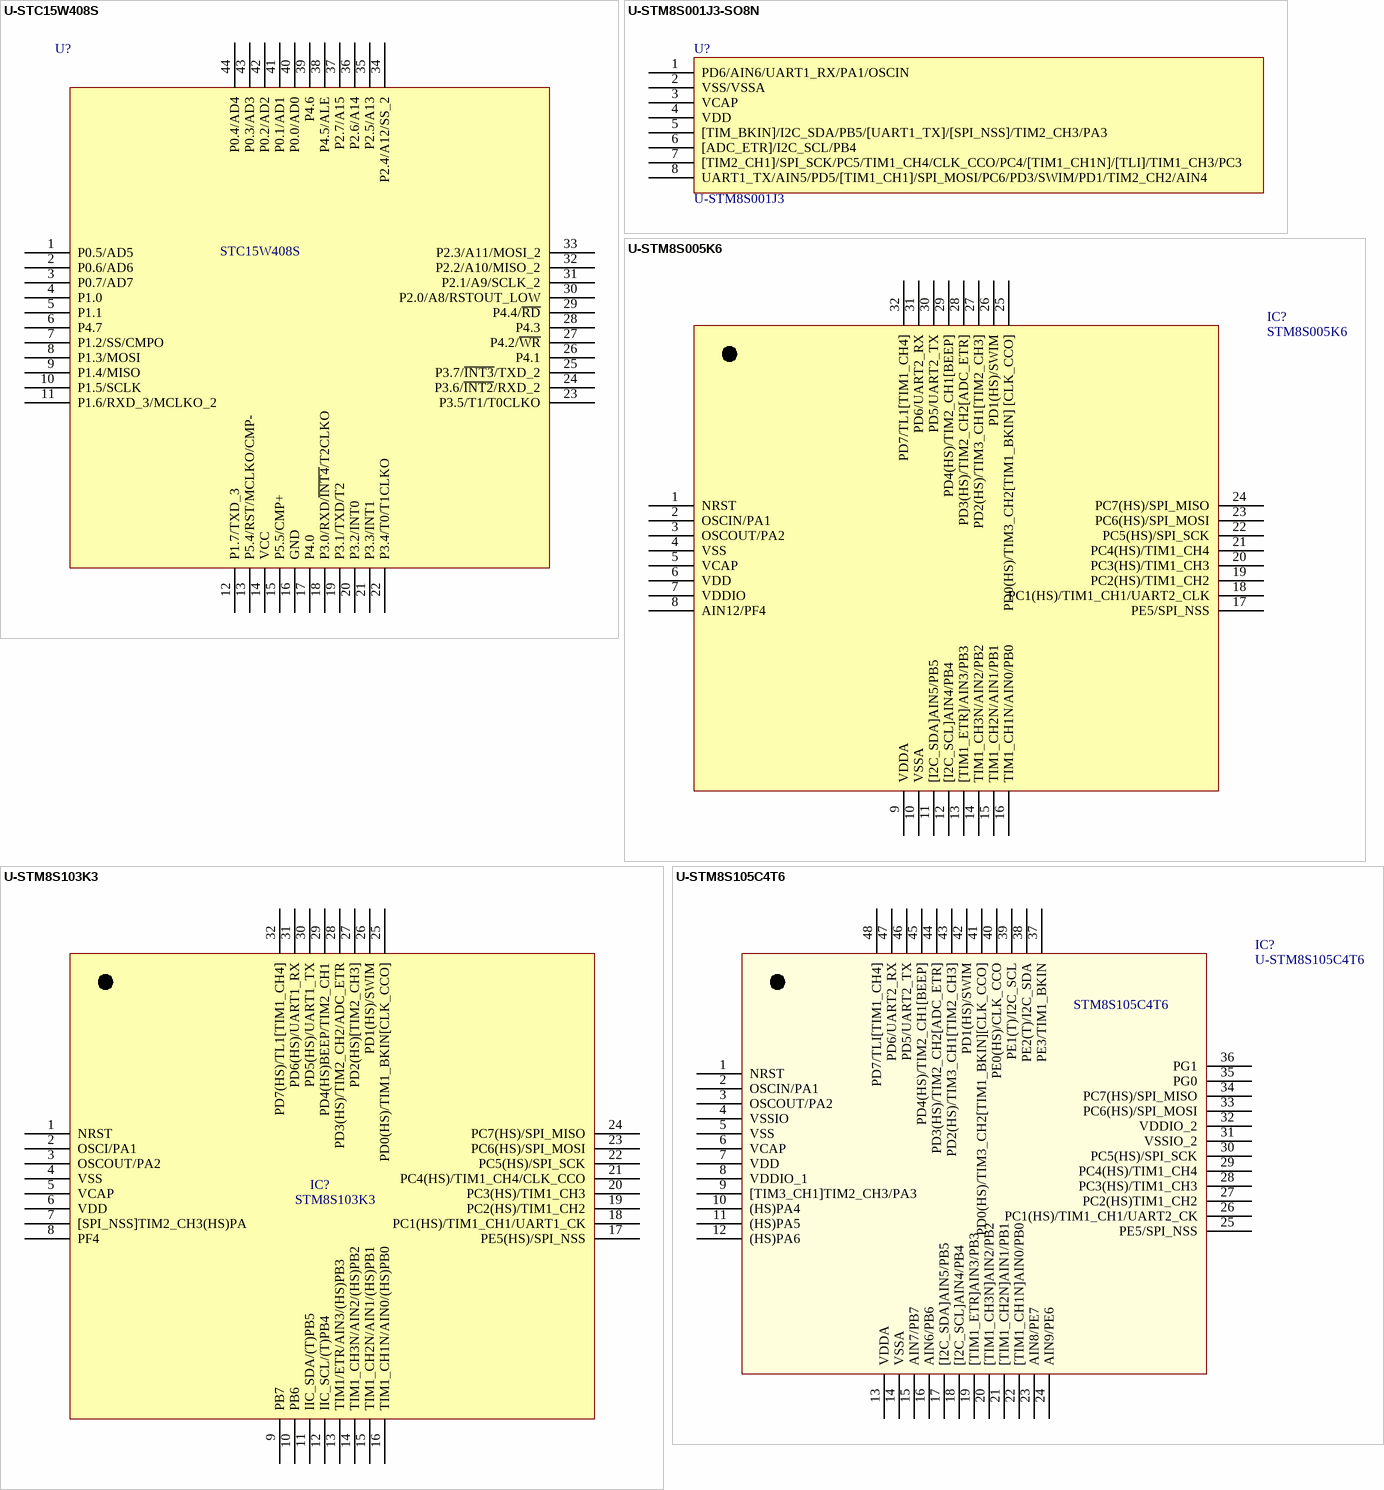
[diagram p16: symbols U-STC15W408S to U-STM8S105C4T6]

## U-STC15W408S
designator U?, comment STC15W408S
LQFP44
footprint LQFP44
pins: 1 P0.5/AD5, 2 P0.6/AD6, 3 P0.7/AD7, 4 P1.0, 5 P1.1, 6 P4.7, 7 P1.2/SS/CMPO, 8 P1.3/MOSI, 9 P1.4/MISO, 10 P1.5/SCLK, 11 P1.6/RXD_3/MCLKO_2, 12 P1.7/TXD_3, 13 P5.4/RST/MCLKO/CMP-, 14 VCC, 15 P5.5/CMP+, 16 GND, 17 P4.0, 18 P3.0/RXD/~{INT4}/T2CLKO, 19 P3.1/TXD/T2, 20 P3.2/INT0, 21 P3.3/INT1, 22 P3.4/T0/T1CLKO, 23 P3.5/T1/T0CLKO, 24 P3.6/~{INT2}/RXD_2, 25 P3.7/~{INT3}/TXD_2, 26 P4.1, 27 P4.2/~{WR}, 28 P4.3, 29 P4.4/~{RD}, 30 P2.0/A8/RSTOUT_LOW, 31 P2.1/A9/SCLK_2, 32 P2.2/A10/MISO_2, 33 P2.3/A11/MOSI_2, 34 P2.4/A12/SS_2, 35 P2.5/A13, 36 P2.6/A14, 37 P2.7/A15, 38 P4.5/ALE, 39 P4.6, 40 P0.0/AD0, 41 P0.1/AD1, 42 P0.2/AD2, 43 P0.3/AD3, 44 P0.4/AD4

## U-STM8S001J3-SO8N
designator U?, comment U-STM8S001J3
SOP8
footprint SOP8
pins: 1 PD6/AIN6/UART1_RX/PA1/OSCIN, 2 VSS/VSSA, 3 VCAP, 4 VDD, 5 [TIM_BKIN]/I2C_SDA/PB5/[UART1_TX]/[SPI_NSS]/TIM2_CH3/PA3, 6 [ADC_ETR]/I2C_SCL/PB4, 7 [TIM2_CH1]/SPI_SCK/PC5/TIM1_CH4/CLK_CCO/PC4/[TIM1_CH1N]/[TLI]/TIM1_CH3/PC3, 8 UART1_TX/AIN5/PD5/[TIM1_CH1]/SPI_MOSI/PC6/PD3/SWIM/PD1/TIM2_CH2/AIN4

## U-STM8S005K6
designator IC?, comment STM8S005K6
LQFP32
footprint LQFP32
pins: 1 NRST, 2 OSCIN/PA1, 3 OSCOUT/PA2, 4 VSS, 5 VCAP, 6 VDD, 7 VDDIO, 8 AIN12/PF4, 9 VDDA, 10 VSSA, 11 [I2C_SDA]AIN5/PB5, 12 [I2C_SCL]AIN4/PB4, 13 [TIM1_ETR]/AIN3/PB3, 14 TIM1_CH3N/AIN2/PB2, 15 TIM1_CH2N/AIN1/PB1, 16 TIM1_CH1N/AIN0/PB0, 17 PE5/SPI_NSS, 18 PC1(HS)/TIM1_CH1/UART2_CLK, 19 PC2(HS)/TIM1_CH2, 20 PC3(HS)/TIM1_CH3, 21 PC4(HS)/TIM1_CH4, 22 PC5(HS)/SPI_SCK, 23 PC6(HS)/SPI_MOSI, 24 PC7(HS)/SPI_MISO, 25 PD0(HS)/TIM3_CH2[TIM1_BKIN] [CLK_CCO], 26 PD1(HS)/SWIM, 27 PD2(HS)/TIM3_CH1[TIM2_CH3], 28 PD3(HS)/TIM2_CH2[ADC_ETR], 29 PD4(HS)/TIM2_CH1[BEEP], 30 PD5/UART2_TX, 31 PD6/UART2_RX, 32 PD7/TL1[TIM1_CH4]

## U-STM8S103K3
designator IC?, comment STM8S103K3
U-STM8S103K3T6C-LQFP32
footprint LQFP32
pins: 1 NRST, 2 OSCI/PA1, 3 OSCOUT/PA2, 4 VSS, 5 VCAP, 6 VDD, 7 [SPI_NSS]TIM2_CH3(HS)PA, 8 PF4, 9 PB7, 10 PB6, 11 IIC_SDA/(T)PB5, 12 IIC_SCL/(T)PB4, 13 TIM1/ETR/AIN3/(HS)PB3, 14 TIM1_CH3N/AIN2/(HS)PB2, 15 TIM1_CH2N/AIN1/(HS)PB1, 16 TIM1_CH1N/AIN0/(HS)PB0, 17 PE5(HS)/SPI_NSS, 18 PC1(HS)/TIM1_CH1/UART1_CK, 19 PC2(HS)/TIM1_CH2, 20 PC3(HS)/TIM1_CH3, 21 PC4(HS)/TIM1_CH4/CLK_CCO, 22 PC5(HS)/SPI_SCK, 23 PC6(HS)/SPI_MOSI, 24 PC7(HS)/SPI_MISO, 25 PD0(HS)/TIM1_BKIN[CLK_CCO], 26 PD1(HS)/SWIM, 27 PD2(HS)[TIM2_CH3], 28 PD3(HS)/TIM2_CH2/ADC_ETR, 29 PD4(HS)BEEP/TIM2_CH1, 30 PD5(HS)/UART1_TX, 31 PD6(HS)/UART1_RX, 32 PD7(HS)/TL1[TIM1_CH4]

## U-STM8S105C4T6
designator IC?
U-STM8S105C4T6-LQFP48
footprint LQFP48
pins: 1 NRST, 2 OSCIN/PA1, 3 OSCOUT/PA2, 4 VSSIO, 5 VSS, 6 VCAP, 7 VDD, 8 VDDIO_1, 9 [TIM3_CH1]TIM2_CH3/PA3, 10 (HS)PA4, 11 (HS)PA5, 12 (HS)PA6, 13 VDDA, 14 VSSA, 15 AIN7/PB7, 16 AIN6/PB6, 17 [I2C_SDA]AIN5/PB5, 18 [I2C_SCL]AIN4/PB4, 19 [TIM1_ETR]AIN3/PB3, 20 [TIM1_CH3N]AIN2/PB2, 21 [TIM1_CH2N]AIN1/PB1, 22 [TIM1_CH1N]AIN0/PB0, 23 AIN8/PE7, 24 AIN9/PE6, 25 PE5/SPI_NSS, 26 PC1(HS)/TIM1_CH1/UART2_CK, 27 PC2(HS)TIM1_CH2, 28 PC3(HS)/TIM1_CH3, 29 PC4(HS)/TIM1_CH4, 30 PC5(HS)/SPI_SCK, 31 VSSIO_2, 32 VDDIO_2, 33 PC6(HS)/SPI_MOSI, 34 PC7(HS)/SPI_MISO, 35 PG0, 36 PG1, 37 PE3/TIM1_BKIN, 38 PE2(T)/I2C_SDA, 39 PE1(T)/I2C_SCL, 40 PE0(HS)/CLK_CCO, 41 PD0(HS)/TIM3_CH2[TIM1_BKIN][CLK_CCO], 42 PD1(HS)/SWIM, 43 PD2(HS)/TIM3_CH1[TIM2_CH3], 44 PD3(HS)/TIM2_CH2[ADC_ETR], 45 PD4(HS)/TIM2_CH1[BEEP], 46 PD5/UART2_TX, 47 PD6/UART2_RX, 48 PD7/TLI[TIM1_CH4]
text: STM8S105C4T6

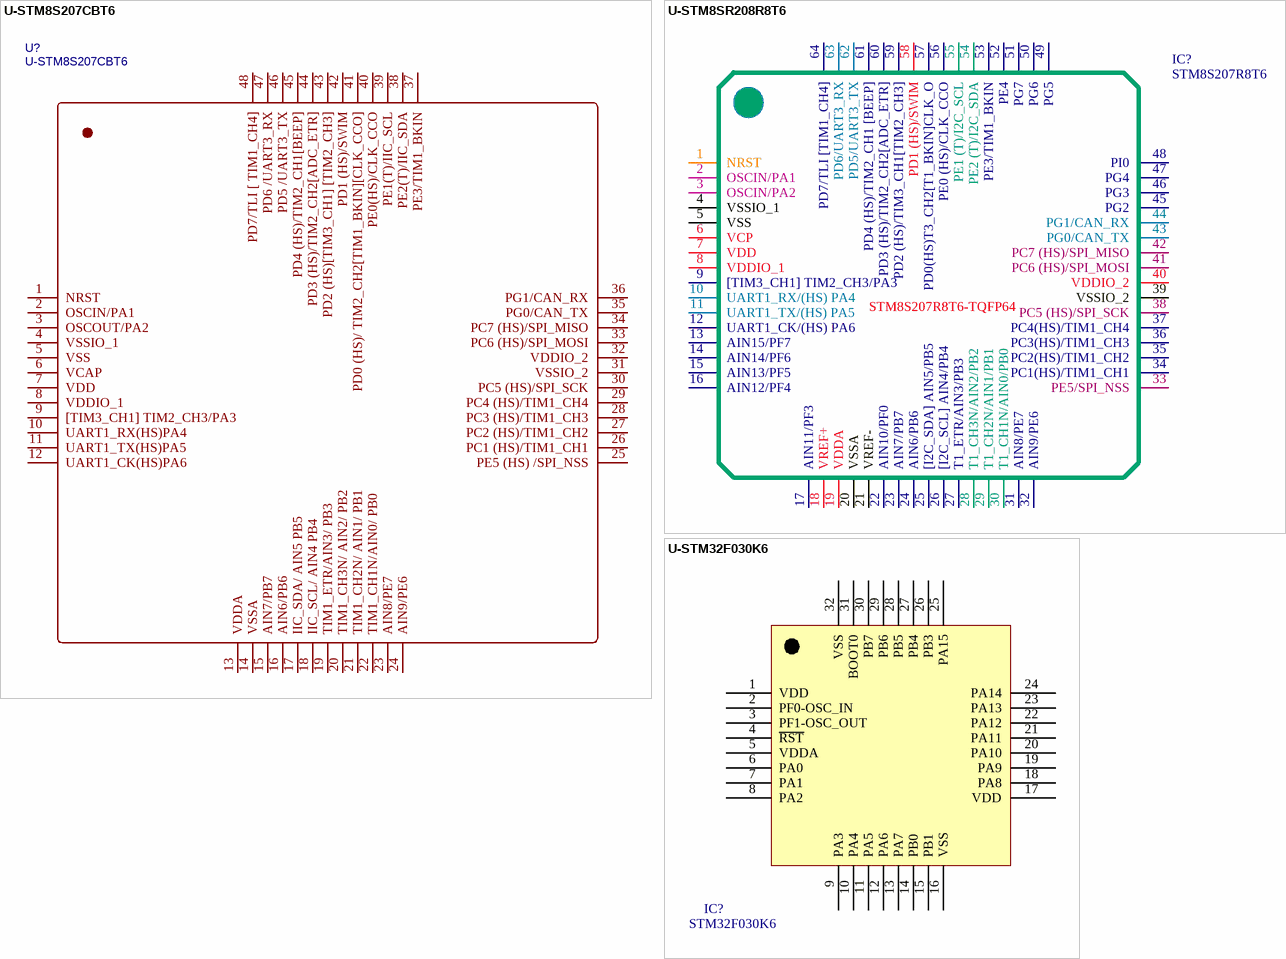
[diagram p17: symbols U-STM8S207CBT6 to U-STM32F030K6]

## U-STM8S207CBT6
designator U?
LQFP48
footprint LQFP48
pins: 1 NRST, 2 OSCIN/PA1, 3 OSCOUT/PA2, 4 VSSIO_1, 5 VSS, 6 VCAP, 7 VDD, 8 VDDIO_1, 9 [TIM3_CH1] TIM2_CH3/PA3, 10 UART1_RX(HS)PA4, 11 UART1_TX(HS)PA5, 12 UART1_CK(HS)PA6, 13 VDDA, 14 VSSA, 15 AIN7/PB7, 16 AIN6/PB6, 17 IIC_SDA/ AIN5 PB5, 18 IIC_SCL/ AIN4 PB4, 19 TIM1_ETR/AIN3/ PB3, 20 TIM1_CH3N/ AIN2/ PB2, 21 TIM1_CH2N/ AIN1/ PB1, 22 TIM1_CH1N/AIN0/ PB0, 23 AIN8/PE7, 24 AIN9/PE6, 25 PE5 (HS) /SPI_NSS, 26 PC1 (HS)/TIM1_CH1, 27 PC2 (HS)/TIM1_CH2, 28 PC3 (HS)/TIM1_CH3, 29 PC4 (HS)/TIM1_CH4, 30 PC5 (HS)/SPI_SCK, 31 VSSIO_2, 32 VDDIO_2, 33 PC6 (HS)/SPI_MOSI, 34 PC7 (HS)/SPI_MISO, 35 PG0/CAN_TX, 36 PG1/CAN_RX, 37 PE3/TIM1_BKIN, 38 PE2(T)/IIC_SDA, 39 PE1(T)/IIC_SCL, 40 PE0(HS)/CLK_CCO, 41 PD0 (HS)/ TIM2_CH2[TIM1_BKIN][CLK_CCO], 42 PD1 (HS)/SWIM, 43 PD2 (HS)[TIM3_CH1] [TIM2_CH3], 44 PD3 (HS)/TIM2_CH2[ADC_ETR], 45 PD4 (HS)/TIM2_CH1[BEEP], 46 PD5 /UART3_TX, 47 PD6 /UART3_RX, 48 PD7/TLI [ TIM1_CH4]

## U-STM8SR208R8T6
designator IC?, comment STM8S207R8T6
U-STM8S207R8T6-LQFP64
footprint LQFP64
pins: 1 NRST, 2 OSCIN/PA1, 3 OSCIN/PA2, 4 VSSIO_1, 5 VSS, 6 VCP, 7 VDD, 8 VDDIO_1, 9 [TIM3_CH1] TIM2_CH3/PA3, 10 UART1_RX/(HS) PA4, 11 UART1_TX/(HS) PA5, 12 UART1_CK/(HS) PA6, 13 AIN15/PF7, 14 AIN14/PF6, 15 AIN13/PF5, 16 AIN12/PF4, 17 AIN11/PF3, 18 VREF+, 19 VDDA, 20 VSSA, 21 VREF-, 22 AIN10/PF0, 23 AIN7/PB7, 24 AIN6/PB6, 25 [I2C_SDA] AIN5/PB5, 26 [I2C_SCL] AIN4/PB4, 27 T1_ETR/AIN3/PB3, 28 T1_CH3N/AIN2/PB2, 29 T1_CH2N/AIN1/PB1, 30 T1_CH1N/AIN0/PB0, 31 AIN8/PE7, 32 AIN9/PE6, 33 PE5/SPI_NSS, 34 PC1(HS)/TIM1_CH1, 35 PC2(HS)/TIM1_CH2, 36 PC3(HS)/TIM1_CH3, 37 PC4(HS)/TIM1_CH4, 38 PC5 (HS)/SPI_SCK, 39 VSSIO_2, 40 VDDIO_2, 41 PC6 (HS)/SPI_MOSI, 42 PC7 (HS)/SPI_MISO, 43 PG0/CAN_TX, 44 PG1/CAN_RX, 45 PG2, 46 PG3, 47 PG4, 48 PI0, 49 PG5, 50 PG6, 51 PG7, 52 PE4, 53 PE3/TIM1_BKIN, 54 PE2 (T)/I2C_SDA, 55 PE1 (T)/I2C_SCL, 56 PE0 (HS)/CLK_CCO, 57 PD0(HS)T3_CH2[T1_BKIN]CLK_O, 58 PD1 (HS)/SWIM, 59 PD2 (HS)/TIM3_CH1[TIM2_CH3], 60 PD3 (HS)/TIM2_CH2[ADC_ETR], 61 PD4 (HS)/TIM2_CH1 [BEEP], 62 PD5/UART3_TX, 63 PD6/UART3_RX, 64 PD7/TLI [TIM1_CH4]
text: STM8S207R8T6-TQFP64

## U-STM32F030K6
designator IC?, comment STM32F030K6
LQFP32
footprint LQFP32
pins: 1 VDD, 2 PF0-OSC_IN, 3 PF1-OSC_OUT, 4 ~{RST}, 5 VDDA, 6 PA0, 7 PA1, 8 PA2, 9 PA3, 10 PA4, 11 PA5, 12 PA6, 13 PA7, 14 PB0, 15 PB1, 16 VSS, 17 VDD, 18 PA8, 19 PA9, 20 PA10, 21 PA11, 22 PA12, 23 PA13, 24 PA14, 25 PA15, 26 PB3, 27 PB4, 28 PB5, 29 PB6, 30 PB7, 31 BOOT0, 32 VSS

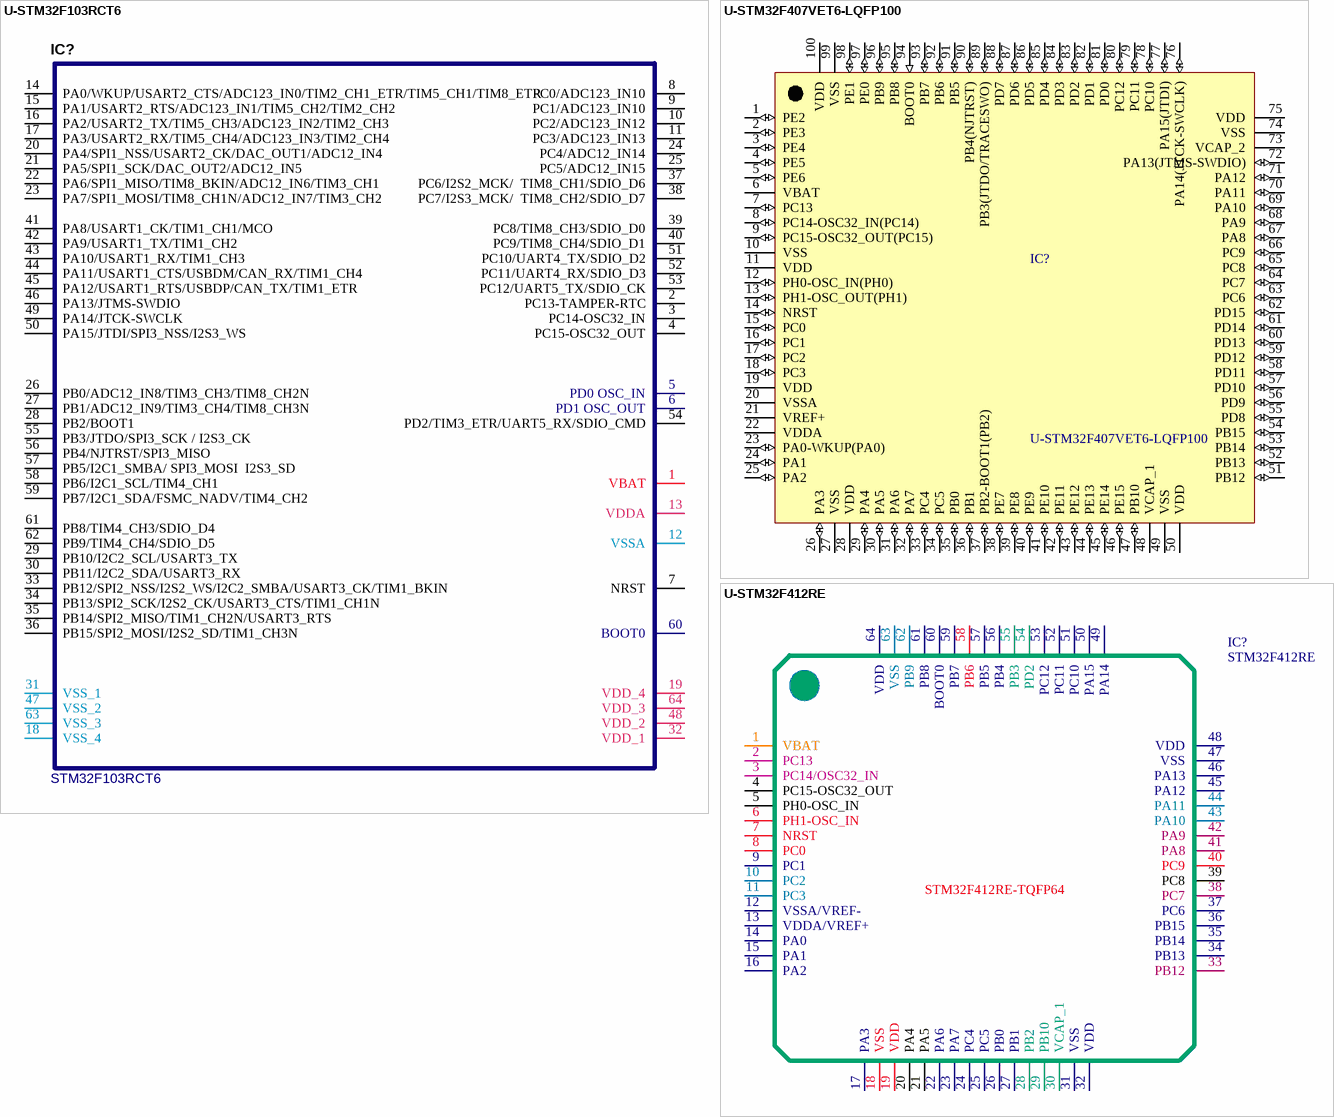
[diagram p18: symbols U-STM32F103RCT6 to U-STM32F412RE]

## U-STM32F103RCT6
designator IC?, comment STM32F103RCT6
LQFP64
footprint LQFP-64
pins: 1 VBAT, 2 PC13-TAMPER-RTC, 3 PC14-OSC32_IN, 4 PC15-OSC32_OUT, 5 PD0 OSC_IN, 6 PD1 OSC_OUT, 7 NRST, 8 PC0/ADC123_IN10, 9 PC1/ADC123_IN10, 10 PC2/ADC123_IN12, 11 PC3/ADC123_IN13, 12 VSSA, 13 VDDA, 14 PA0/WKUP/USART2_CTS/ADC123_IN0/TIM2_CH1_ETR/TIM5_CH1/TIM8_ETR, 15 PA1/USART2_RTS/ADC123_IN1/TIM5_CH2/TIM2_CH2, 16 PA2/USART2_TX/TIM5_CH3/ADC123_IN2/TIM2_CH3, 17 PA3/USART2_RX/TIM5_CH4/ADC123_IN3/TIM2_CH4, 18 VSS_4, 19 VDD_4, 20 PA4/SPI1_NSS/USART2_CK/DAC_OUT1/ADC12_IN4, 21 PA5/SPI1_SCK/DAC_OUT2/ADC12_IN5, 22 PA6/SPI1_MISO/TIM8_BKIN/ADC12_IN6/TIM3_CH1, 23 PA7/SPI1_MOSI/TIM8_CH1N/ADC12_IN7/TIM3_CH2, 24 PC4/ADC12_IN14, 25 PC5/ADC12_IN15, 26 PB0/ADC12_IN8/TIM3_CH3/TIM8_CH2N, 27 PB1/ADC12_IN9/TIM3_CH4/TIM8_CH3N, 28 PB2/BOOT1, 29 PB10/I2C2_SCL/USART3_TX, 30 PB11/I2C2_SDA/USART3_RX, 31 VSS_1, 32 VDD_1, 33 PB12/SPI2_NSS/I2S2_WS/I2C2_SMBA/USART3_CK/TIM1_BKIN, 34 PB13/SPI2_SCK/I2S2_CK/USART3_CTS/TIM1_CH1N, 35 PB14/SPI2_MISO/TIM1_CH2N/USART3_RTS, 36 PB15/SPI2_MOSI/I2S2_SD/TIM1_CH3N, 37 PC6/I2S2_MCK/  TIM8_CH1/SDIO_D6, 38 PC7/I2S3_MCK/  TIM8_CH2/SDIO_D7, 39 PC8/TIM8_CH3/SDIO_D0, 40 PC9/TIM8_CH4/SDIO_D1, 41 PA8/USART1_CK/TIM1_CH1/MCO, 42 PA9/USART1_TX/TIM1_CH2, 43 PA10/USART1_RX/TIM1_CH3, 44 PA11/USART1_CTS/USBDM/CAN_RX/TIM1_CH4, 45 PA12/USART1_RTS/USBDP/CAN_TX/TIM1_ETR, 46 PA13/JTMS-SWDIO, 47 VSS_2, 48 VDD_2, 49 PA14/JTCK-SWCLK, 50 PA15/JTDI/SPI3_NSS/I2S3_WS, 51 PC10/UART4_TX/SDIO_D2, 52 PC11/UART4_RX/SDIO_D3, 53 PC12/UART5_TX/SDIO_CK, 54 PD2/TIM3_ETR/UART5_RX/SDIO_CMD, 55 PB3/JTDO/SPI3_SCK / I2S3_CK, 56 PB4/NJTRST/SPI3_MISO, 57 PB5/I2C1_SMBA/ SPI3_MOSI  I2S3_SD, 58 PB6/I2C1_SCL/TIM4_CH1, 59 PB7/I2C1_SDA/FSMC_NADV/TIM4_CH2, 60 BOOT0, 61 PB8/TIM4_CH3/SDIO_D4, 62 PB9/TIM4_CH4/SDIO_D5, 63 VSS_3, 64 VDD_3

## U-STM32F407VET6-LQFP100
designator IC?
LQFP100
footprint U-STM32F407VET6-LQFP100 (Footprint not found)
pins: 1 PE2 (io) "PE2/TRACECLK/FSMC_A23/ETH_MII_TXD3/EVENTOUT", 2 PE3 (io) "PE3/TRACED0/FSMC_A19/EVENTOUT", 3 PE4 (io) "PE4/TRACED1/FSMC_A20/DCMI_D4/EVENTOUT", 4 PE5 (io) "PE5/TRACED2/FSMC_A21/TIM9_CH1/DCMI_D6/EVENTOUT", 5 PE6 (io) "PE6/TRACED3/FSMC_A22/TIM9_CH2/DCMI_D7/EVENTOUT", 6 VBAT (power), 7 PC13 (io) "PC13/EVENTOUT/RTC_OUT,RTC_TAMP1,RTC_TS", 8 PC14-OSC32_IN(PC14) (io) "PC14-OSC32_IN(PC14)/EVENTOUT/OSC32_IN", 9 PC15-OSC32_OUT(PC15) (io) "PC15-OSC32_OUT(PC15)/EVENTOUT/OSC32_OUT", 10 VSS (power), 11 VDD (power), 12 PH0-OSC_IN(PH0) (io) "PH0-OSC_IN(PH0)/EVENTOUT/OSC_IN", 13 PH1-OSC_OUT(PH1) (io) "PH1-OSC_OUT(PH1)/EVENTOUT/OSC_OUT", 14 NRST (io), 15 PC0 (io) "PC0/OTG_HS_ULPI_STP/EVENTOUT/ADC123_IN10", 16 PC1 (io) "PC1/ETH_MDC/EVENTOUT/ADC123_IN11", 17 PC2 (io) "PC2/SPI2_MISO/OTG_HS_ULPI_DIR/ETH_MII_TXD2/I2S2ext_SD/EVENTOUT/ADC123_IN12", 18 PC3 (io) "PC3/SPI2_MOSI/I2S2_SD/OTG_HS_ULPI_NXT/ETH_MII_TX_CLK/EVENTOUT/ADC123_IN13", 19 VDD (power), 20 VSSA (power), 21 VREF+ (power), 22 VDDA (power), 23 PA0-WKUP(PA0) (io) "PA0-WKUP(PA0)/USART2_CTS/UART4_TX/ETH_MII_CRS/TIM2_CH1_ETR/TIM5_CH1/TIM8_ETR/EVENTOUT/ADC123_IN0/WKUP", 24 PA1 (io) "PA1/USART2_RTS/UART4_RX/ETH_RMII_REF_CLK/ETH_MII_RX_CLK/TIM5_CH2/TIM2_CH2/EVENTOUT/ADC123_IN1", 25 PA2 (io) "PA2/USART2_TX/TIM5_CH3/TIM9_CH1/TIM2_CH3/ETH_MDIO/EVENTOUT/ADC123_IN2", 26 PA3 (io) "PA3/USART2_RX/TIM5_CH4/TIM9_CH2/TIM2_CH4/OTG_HS_ULPI_D0/ETH_MII_COL/EVENTOUT/ADC123_IN3", 27 VSS (power), 28 VDD (power), 29 PA4 (io) "PA4/SPI1_NSS/SPI3_NSS/USART2_CK/DCMI_HSYNC/OTG_HS_SOF/I2S3_WS/EVENTOUT/ADC12_IN4/DAC_OUT1", 30 PA5 (io) "PA5/SPI1_SCK/OTG_HS_ULPI_CK/TIM2_CH1_ETR/TIM8_CH1N/EVENTOUT/ADC12_IN5/DAC_OUT2", 31 PA6 (io) "PA6/SPI1_MISO/TIM8_BKIN/TIM13_CH1/DCMI_PIXCLK/TIM3_CH1/TIM1_BKIN/EVENTOUT/ADC12_IN6", 32 PA7 (io) "PA7/SPI1_MOSI/TIM8_CH1N/TIM14_CH1/TIM3_CH2/ETH_MII_RX_DV/TIM1_CH1N/ETH_RMII_CRS_DV/EVENTOUT/ADC12_IN7", 33 PC4 (io) "PC4/ETH_RMII_RX_D0/ETH_MII_RX_D0/EVENTOUT/ADC12_IN14", 34 PC5 (io) "PC5/ETH_RMII_RX_D1/ETH_MII_RX_D1/EVENTOUT/ADC12_IN15", 35 PB0 (io) "PB0/TIM3_CH3/TIM8_CH2N/OTG_HS_ULPI_D1/ETH_MII_RXD2/TIM1_CH2N/EVENTOUT/ADC12_IN8", 36 PB1 (io) "PB1/TIM3_CH4/TIM8_CH3N/OTG_HS_ULPI_D2/ETH_MII_RXD3/TIM1_CH3N/EVENTOUT/ADC12_IN9", 37 PB2-BOOT1(PB2) (io) "PB2-BOOT1(PB2)/EVENTOUT", 38 PE7 (io) "PE7/FSMC_D4/TIM1_ETR/EVENTOUT", 39 PE8 (io) "PE8/FSMC_D5/TIM1_CH1N/EVENTOUT", 40 PE9 (io) "PE9/FSMC_D6/TIM1_CH1/EVENTOUT", 41 PE10 (io) "PE10/FSMC_D7/TIM1_CH2N/EVENTOUT", 42 PE11 (io) "PE11/FSMC_D8/TIM1_CH2/EVENTOUT", 43 PE12 (io) "PE12/FSMC_D9/TIM1_CH3N/EVENTOUT", 44 PE13 (io) "PE13/FSMC_D10/TIM1_CH3/EVENTOUT", 45 PE14 (io) "PE14/FSMC_D11/TIM1_CH4/EVENTOUT", 46 PE15 (io) "PE15/FSMC_D12/TIM1_BKIN/EVENTOUT", 47 PB10 (io) "PB10/SPI2_SCK/I2S2_CK/I2C2_SCL/USART3_TX/OTG_HS_ULPI_D3/ETH_MII_RX_ER/TIM2_CH3/EVENTOUT", 48 VCAP_1 "PB11/I2C2_SDA/USART3_RX/OTG_HS_ULPI_D4/ETH_RMII_TX_EN/ETH_MII_TX_EN/TIM2_CH4/EVENTOUT", 49 VSS (power) "VCAP_1", 50 VDD (power), 51 PB12 (io) "PB12/SPI2_NSS/I2S2_WS/I2C2_SMBA/USART3_CK/TIM1_BKIN/CAN2_RX/OTG_HS_ULPI_D5/ETH_RMII_TXD0/ETH_MII_TXD0/OTG_HS_ID/EVENTOUT", 52 PB13 (io) "PB13/SPI2_SCK/I2S2_CK/USART3_CTS/TIM1_CH1N/CAN2_TX/OTG_HS_ULPI_D6/ETH_RMII_TXD1/ETH_MII_TXD1/EVENTOUT/OTG_HS_VBUS", 53 PB14 (io) "PB14/SPI2_MISO/TIM1_CH2N/TIM12_CH1/OTG_HS_DM/USART3_RTS/TIM8_CH2N/I2S2ext_SD/EVENTOUT", 54 PB15 (io) "PB15/SPI2_MOSI/I2S2_SD/TIM1_CH3N/TIM8_CH3N/TIM12_CH2/OTG_HS_DP/EVENTOUT/RTC_REFIN", 55 PD8 (io) "PD8/FSMC_D13/USART3_TX/EVENTOUT", 56 PD9 (io) "PD9/FSMC_D14/USART3_RX/EVENTOUT", 57 PD10 (io) "PD10/FSMC_D15/USART3_CK/EVENTOUT", 58 PD11 (io) "PD11/FSMC_CLE/FSMC_A16/USART3_CTS/EVENTOUT", 59 PD12 (io) "PD12/FSMC_ALE/FSMC_A17/TIM4_CH1/USART3_RTS/EVENTOUT", 60 PD13 (io) "PD13/FSMC_A18/TIM4_CH2/EVENTOUT", 61 PD14 (io) "PD14/FSMC_D0/TIM4_CH3/EVENTOUT", 62 PD15 (io) "PD15/FSMC_D1/TIM4_CH4/EVENTOUT", 63 PC6 (io) "PC6/I2S2_MCK/TIM8_CH1/SDIO_D6/USART6_TX/DCMI_D0/TIM3_CH1/EVENTOUT", 64 PC7 (io) "PC7/I2S3_MCK/TIM8_CH2/SDIO_D7/USART6_RX/DCMI_D1/TIM3_CH2/EVENTOUT", 65 PC8 (io) "PC8/TIM8_CH3/SDIO_D0/TIM3_CH3/USART6_CK/DCMI_D2/EVENTOUT", 66 PC9 (io) "PC9/I2S_CKIN/MCO2/TIM8_CH4/SDIO_D1/I2C3_SDA/DCMI_D3/TIM3_CH4/EVENTOUT", 67 PA8 (io) "PA8/MCO1/USART1_CK/TIM1_CH1/I2C3_SCL/OTG_FS_SOF/EVENTOUT", 68 PA9 (io) "PA9/USART1_TX/TIM1_CH2/I2C3_SMBA/DCMI_D0/EVENTOUT/OTG_FS_VBUS", 69 PA10 (io) "PA10/USART1_RX/TIM1_CH3/OTG_FS_ID/DCMI_D1/EVENTOUT", 70 PA11 (io) "PA11/USART1_CTS/CAN1_RX/TIM1_CH4/OTG_FS_DM/EVENTOUT", 71 PA12 (io) "PA12/USART1_RTS/CAN1_TX/TIM1_ETR/OTG_FS_DP/EVENTOUT", 72 PA13(JTMS-SWDIO) (io) "PA13(JTMS-SWDIO)/JTMS-SWDIO/EVENTOUT", 73 VCAP_2 (power), 74 VSS (power), 75 VDD (power), 76 PA14(JTCK-SWCLK) (io) "PA14(JTCK-SWCLK)/JTCK-SWCLK/EVENTOUT", 77 PA15(JTDI) (io) "PA15(JTDI)/JTDI/SPI3_NSS/I2S3_WS/TIM2_CH1_ETR/SPI1_NSS/EVENTOUT", 78 PC10 (io) "PC10/SPI3_SCK/I2S3_CK/UART4_TX/SDIO_D2/DCMI_D8/USART3_TX/EVENTOUT", 79 PC11 (io) "PC11/UART4_RX/SPI3_MISO/SDIO_D3/DCMI_D4/USART3_RX/I2S3ext_SD/EVENTOUT", 80 PC12 (io) "PC12/UART5_TX/SDIO_CK/DCMI_D9/SPI3_MOSI/I2S3_SD/USART3_CK/EVENTOUT", 81 PD0 (io) "PD0/FSMC_D2/CAN1_RX/EVENTOUT", 82 PD1 (io) "PD1/FSMC_D3/CAN1_TX/EVENTOUT", 83 PD2 (io) "PD2/TIM3_ETR/UART5_RX/SDIO_CMD/DCMI_D11/EVENTOUT", 84 PD3 (io) "PD3/FSMC_CLK/USART2_CTS/EVENTOUT", 85 PD4 (io) "PD4/FSMC_NOE/USART2_RTS/EVENTOUT", 86 PD5 (io) "PD5/FSMC_NWE/USART2_TX/EVENTOUT", 87 PD6 (io) "PD6/FSMC_NWAIT/USART2_RX/EVENTOUT", 88 PD7 (io) "PD7/USART2_CK/FSMC_NE1/FSMC_NCE2/EVENTOUT", 89 PB3(JTDO/TRACESWO) (io) "PB3(JTDO/TRACESWO)/JTDO/TRACESWO/SPI3_SCK/I2S3_CK/TIM2_CH2/SPI1_SCK/EVENTOUT", 90 PB4(NJTRST) (io) "PB4(NJTRST)/NJTRST/SPI3_MISO/TIM3_CH1/SPI1_MISO/I2S3ext_SD/EVENTOUT", 91 PB5 (io) "PB5/I2C1_SMBA/CAN2_RX/OTG_HS_ULPI_D7/ETH_PPS_OUT/TIM3_CH2/SPI1_MOSI/SPI3_MOSI/DCMI_D10/I2S3_SD/EVENTOUT", 92 PB6 (io) "PB6/I2C1_SCL/TIM4_CH1/CAN2_TX/DCMI_D5/USART1_TX/EVENTOUT", 93 PB7 (io) "PB7/I2C1_SDA/FSMC_NL/DCMI_VSYNC/USART1_RX/TIM4_CH2/EVENTOUT", 94 BOOT0 (in) "BOOT0/VPP", 95 PB8 (io) "PB8/TIM4_CH3/SDIO_D4/TIM10_CH1/DCMI_D6/ETH_MII_TXD3/I2C1_SCL/CAN1_RX/EVENTOUT", 96 PB9 (io) "PB9/SPI2_NSS/I2S2_WS/TIM4_CH4/TIM11_CH1/SDIO_D5/DCMI_D7/I2C1_SDA/CAN1_TX/EVENTOUT", 97 PE0 (io) "PE0/TIM4_ETR/FSMC_NBL0/DCMI_D2/EVENTOUT", 98 PE1 (io) "PE1/FSMC_NBL1/DCMI_D3/EVENTOUT", 99 VSS (power), 100 VDD (power)

## U-STM32F412RE
designator IC?, comment STM32F412RE
LQFP64
footprint LQFP64
pins: 1 VBAT, 2 PC13, 3 PC14/OSC32_IN, 4 PC15-OSC32_OUT, 5 PH0-OSC_IN, 6 PH1-OSC_IN, 7 NRST, 8 PC0, 9 PC1, 10 PC2, 11 PC3, 12 VSSA/VREF-, 13 VDDA/VREF+, 14 PA0, 15 PA1, 16 PA2, 17 PA3, 18 VSS, 19 VDD, 20 PA4, 21 PA5, 22 PA6, 23 PA7, 24 PC4, 25 PC5, 26 PB0, 27 PB1, 28 PB2, 29 PB10, 30 VCAP_1, 31 VSS, 32 VDD, 33 PB12, 34 PB13, 35 PB14, 36 PB15, 37 PC6, 38 PC7, 39 PC8, 40 PC9, 41 PA8, 42 PA9, 43 PA10, 44 PA11, 45 PA12, 46 PA13, 47 VSS, 48 VDD, 49 PA14, 50 PA15, 51 PC10, 52 PC11, 53 PC12, 54 PD2, 55 PB3, 56 PB4, 57 PB5, 58 PB6, 59 PB7, 60 BOOT0, 61 PB8, 62 PB9, 63 VSS, 64 VDD
text: STM32F412RE-TQFP64

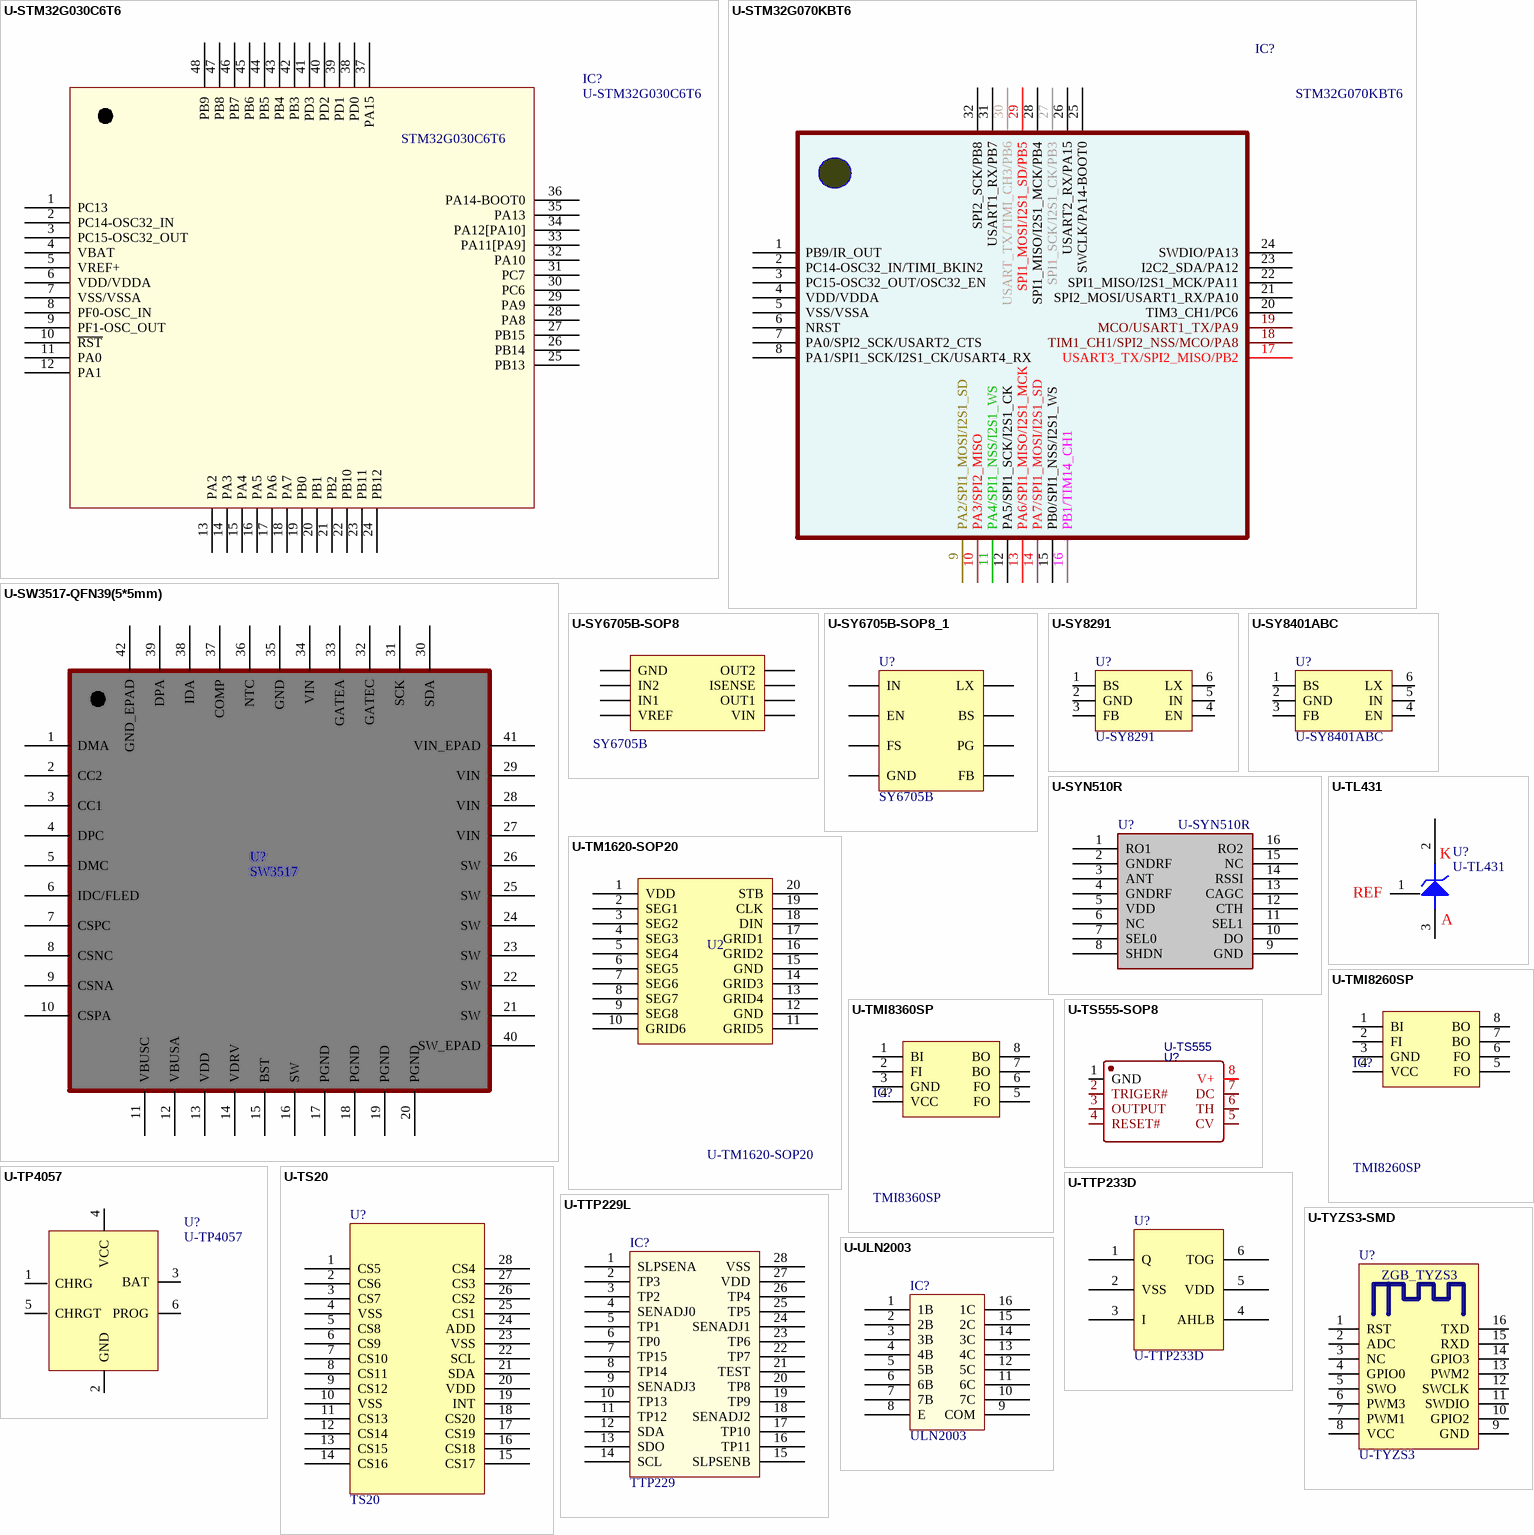
[diagram p19: symbols U-STM32G030C6T6 to U-ULN2003]

## U-STM32G030C6T6
designator IC?
LQFP48
footprint LQFP48
pins: 1 PC13, 2 PC14-OSC32_IN, 3 PC15-OSC32_OUT, 4 VBAT, 5 VREF+, 6 VDD/VDDA, 7 VSS/VSSA, 8 PF0-OSC_IN, 9 PF1-OSC_OUT, 10 ~{RST}, 11 PA0, 12 PA1, 13 PA2, 14 PA3, 15 PA4, 16 PA5, 17 PA6, 18 PA7, 19 PB0, 20 PB1, 21 PB2, 22 PB10, 23 PB11, 24 PB12, 25 PB13, 26 PB14, 27 PB15, 28 PA8, 29 PA9, 30 PC6, 31 PC7, 32 PA10, 33 PA11[PA9], 34 PA12[PA10], 35 PA13, 36 PA14-BOOT0, 37 PA15, 38 PD0, 39 PD1, 40 PD2, 41 PD3, 42 PB3, 43 PB4, 44 PB5, 45 PB6, 46 PB7, 47 PB8, 48 PB9
text: STM32G030C6T6

## U-STM32G070KBT6
designator IC?, comment STM32G070KBT6
LQFP32; CompNAME: 贴片IC; $MaterialClass: Component; CompCLASSIFICATION: ;电子元器件
footprint LQFP32
pins: 1 PB9/IR_OUT, 2 PC14-OSC32_IN/TIMI_BKIN2, 3 PC15-OSC32_OUT/OSC32_EN, 4 VDD/VDDA, 5 VSS/VSSA, 6 NRST, 7 PA0/SPI2_SCK/USART2_CTS, 8 PA1/SPI1_SCK/I2S1_CK/USART4_RX, 9 PA2/SPI1_MOSI/I2S1_SD, 10 PA3/SPI2_MISO, 11 PA4/SPI1_NSS/I2S1_WS, 12 PA5/SPI1_SCK/I2S1_CK, 13 PA6/SPI1_MISO/I2S1_MCK, 14 PA7/SPI1_MOSI/I2S1_SD, 15 PB0/SPI1_NSS/I2S1_WS, 16 PB1/TIM14_CH1, 17 USART3_TX/SPI2_MISO/PB2, 18 TIM1_CH1/SPI2_NSS/MCO/PA8, 19 MCO/USART1_TX/PA9, 20 TIM3_CH1/PC6, 21 SPI2_MOSI/USART1_RX/PA10, 22 SPI1_MISO/I2S1_MCK/PA11, 23 I2C2_SDA/PA12, 24 SWDIO/PA13, 25 SWCLK/PA14-BOOT0, 26 USART2_RX/PA15, 27 SPI1_SCK/I2S1_CK/PB3, 28 SPI1_MISO/I2S1_MCK/PB4, 29 SPI1_MOSI/I2S1_SD/PB5, 30 USART_TX/TIMI_CH3/PB6, 31 USART1_RX/PB7, 32 SPI2_SCK/PB8

## U-SW3517-QFN39(5*5mm)
designator U?, comment SW3517
footprint QFN39-5*5
pins: 1 DMA, 2 CC2, 3 CC1, 4 DPC, 5 DMC, 6 IDC/FLED, 7 CSPC, 8 CSNC, 9 CSNA, 10 CSPA, 11 VBUSC, 12 VBUSA, 13 VDD, 14 VDRV, 15 BST, 16 SW, 17 PGND, 18 PGND, 19 PGND, 20 PGND, 21 SW, 22 SW, 23 SW, 24 SW, 25 SW, 26 SW, 27 VIN, 28 VIN, 29 VIN, 30 SDA, 31 SCK, 32 GATEC, 33 GATEA, 34 VIN, 35 GND, 36 NTC, 37 COMP, 38 IDA, 39 DPA, 40 SW_EPAD, 41 VIN_EPAD, 42 GND_EPAD

## U-SY6705B-SOP8
designator IC?, comment SY6705B
SOP8
footprint SOP8(散热焊盘)
pins: 1 GND, 2 IN2, 3 IN1, 4 VREF, 5 VIN, 6 OUT1, 7 ISENSE, 8 OUT2, 9 GND hidden to GND

## U-SY6705B-SOP8_1
designator U?, comment SY6705B
footprint SOP8(散热焊盘) (Footprint not found)
pins: 1 IN, 2 EN, 3 FS, 4 GND, 5 FB, 6 PG, 7 BS, 8 LX, 9 hidden to GND

## U-SY8291
designator U?
U-SY8291-SOT23-6
footprint SOT23-6
pins: 1 BS, 2 GND, 3 FB, 4 EN, 5 IN, 6 LX

## U-SY8401ABC
designator U?
SOT23-6
footprint SOT23-6
pins: 1 BS, 2 GND, 3 FB, 4 EN, 5 IN, 6 LX

## U-SYN510R
designator U?
SOP16
footprint SOP16
pins: 1 RO1, 2 GNDRF, 3 ANT, 4 GNDRF, 5 VDD, 6 NC, 7 SEL0, 8 SHDN, 9 GND, 10 DO, 11 SEL1, 12 CTH, 13 CAGC, 14 RSSI, 15 NC, 16 RO2

## U-TL431
designator U?
U-TL431-SOT23
footprint SOT23-3
pins: 1, 2, 3
text: K; REF; A

## U-TM1620-SOP20
designator U2
SOP20
footprint SOP20
pins: 1 VDD, 2 SEG1, 3 SEG2, 4 SEG3, 5 SEG4, 6 SEG5, 7 SEG6, 8 SEG7, 9 SEG8, 10 GRID6, 11 GRID5, 12 GND, 13 GRID4, 14 GRID3, 15 GND, 16 GRID2, 17 GRID1, 18 DIN, 19 CLK, 20 STB

## U-TMI8260SP
designator IC?, comment TMI8260SP
SOP8
footprint SOP8
pins: 1 BI, 2 FI, 3 GND, 4 VCC, 5 FO, 6 FO, 7 BO, 8 BO

## U-TMI8360SP
designator IC?, comment TMI8360SP
SOP8
footprint SOP8
pins: 1 BI, 2 FI, 3 GND, 4 VCC, 5 FO, 6 FO, 7 BO, 8 BO

## U-TP4057
designator U?
SOT23-6
footprint SOT23-6
pins: 1 CHRG, 2 GND, 3 BAT, 4 VCC, 5 CHRGT, 6 PROG

## U-TS20
designator U?, comment TS20
TSSOP28
footprint TSSOP28
pins: 1 CS5, 2 CS6, 3 CS7, 4 VSS, 5 CS8, 6 CS9, 7 CS10, 8 CS11, 9 CS12, 10 VSS, 11 CS13, 12 CS14, 13 CS15, 14 CS16, 15 CS17, 16 CS18, 17 CS19, 18 CS20, 19 INT, 20 VDD, 21 SDA, 22 SCL, 23 VSS, 24 ADD, 25 CS1, 26 CS2, 27 CS3, 28 CS4

## U-TS555-SOP8
designator U?, comment U-TS555
SOP8
footprint SOP8
pins: 1 GND, 2 TRIGER#, 3 OUTPUT, 4 RESET#, 5 CV, 6 TH, 7 DC, 8 V+

## U-TTP229L
designator IC?, comment TTP229
SSOP28
footprint SSOP28
pins: 1 SLPSENA, 2 TP3, 3 TP2, 4 SENADJ0, 5 TP1, 6 TP0, 7 TP15, 8 TP14, 9 SENADJ3, 10 TP13, 11 TP12, 12 SDA, 13 SDO, 14 SCL, 15 SLPSENB, 16 TP11, 17 TP10, 18 SENADJ2, 19 TP9, 20 TP8, 21 TEST, 22 TP7, 23 TP6, 24 SENADJ1, 25 TP5, 26 TP4, 27 VDD, 28 VSS

## U-TTP233D
designator U?
SOT23-6
footprint SOT23-6
pins: 1 Q, 2 VSS, 3 I, 4 AHLB, 5 VDD, 6 TOG

## U-TYZS3-SMD
designator U?, comment U-TYZS3
footprint U-TYZS3-SMD
pins: 1 RST, 2 ADC, 3 NC, 4 GPIO0, 5 SWO, 6 PWM3, 7 PWM1, 8 VCC, 9 GND, 10 GPIO2, 11 SWDIO, 12 SWCLK, 13 PWM2, 14 GPIO3, 15 RXD, 16 TXD
2 alternate drawings of the same symbol
text: ZGB_TYZS3

## U-ULN2003
designator IC?, comment ULN2003
U-ULN2003-SOIC16
footprint SOP16
pins: 1 1B, 2 2B, 3 3B, 4 4B, 5 5B, 6 6B, 7 7B, 8 E, 9 COM, 10 7C, 11 6C, 12 5C, 13 4C, 14 3C, 15 2C, 16 1C

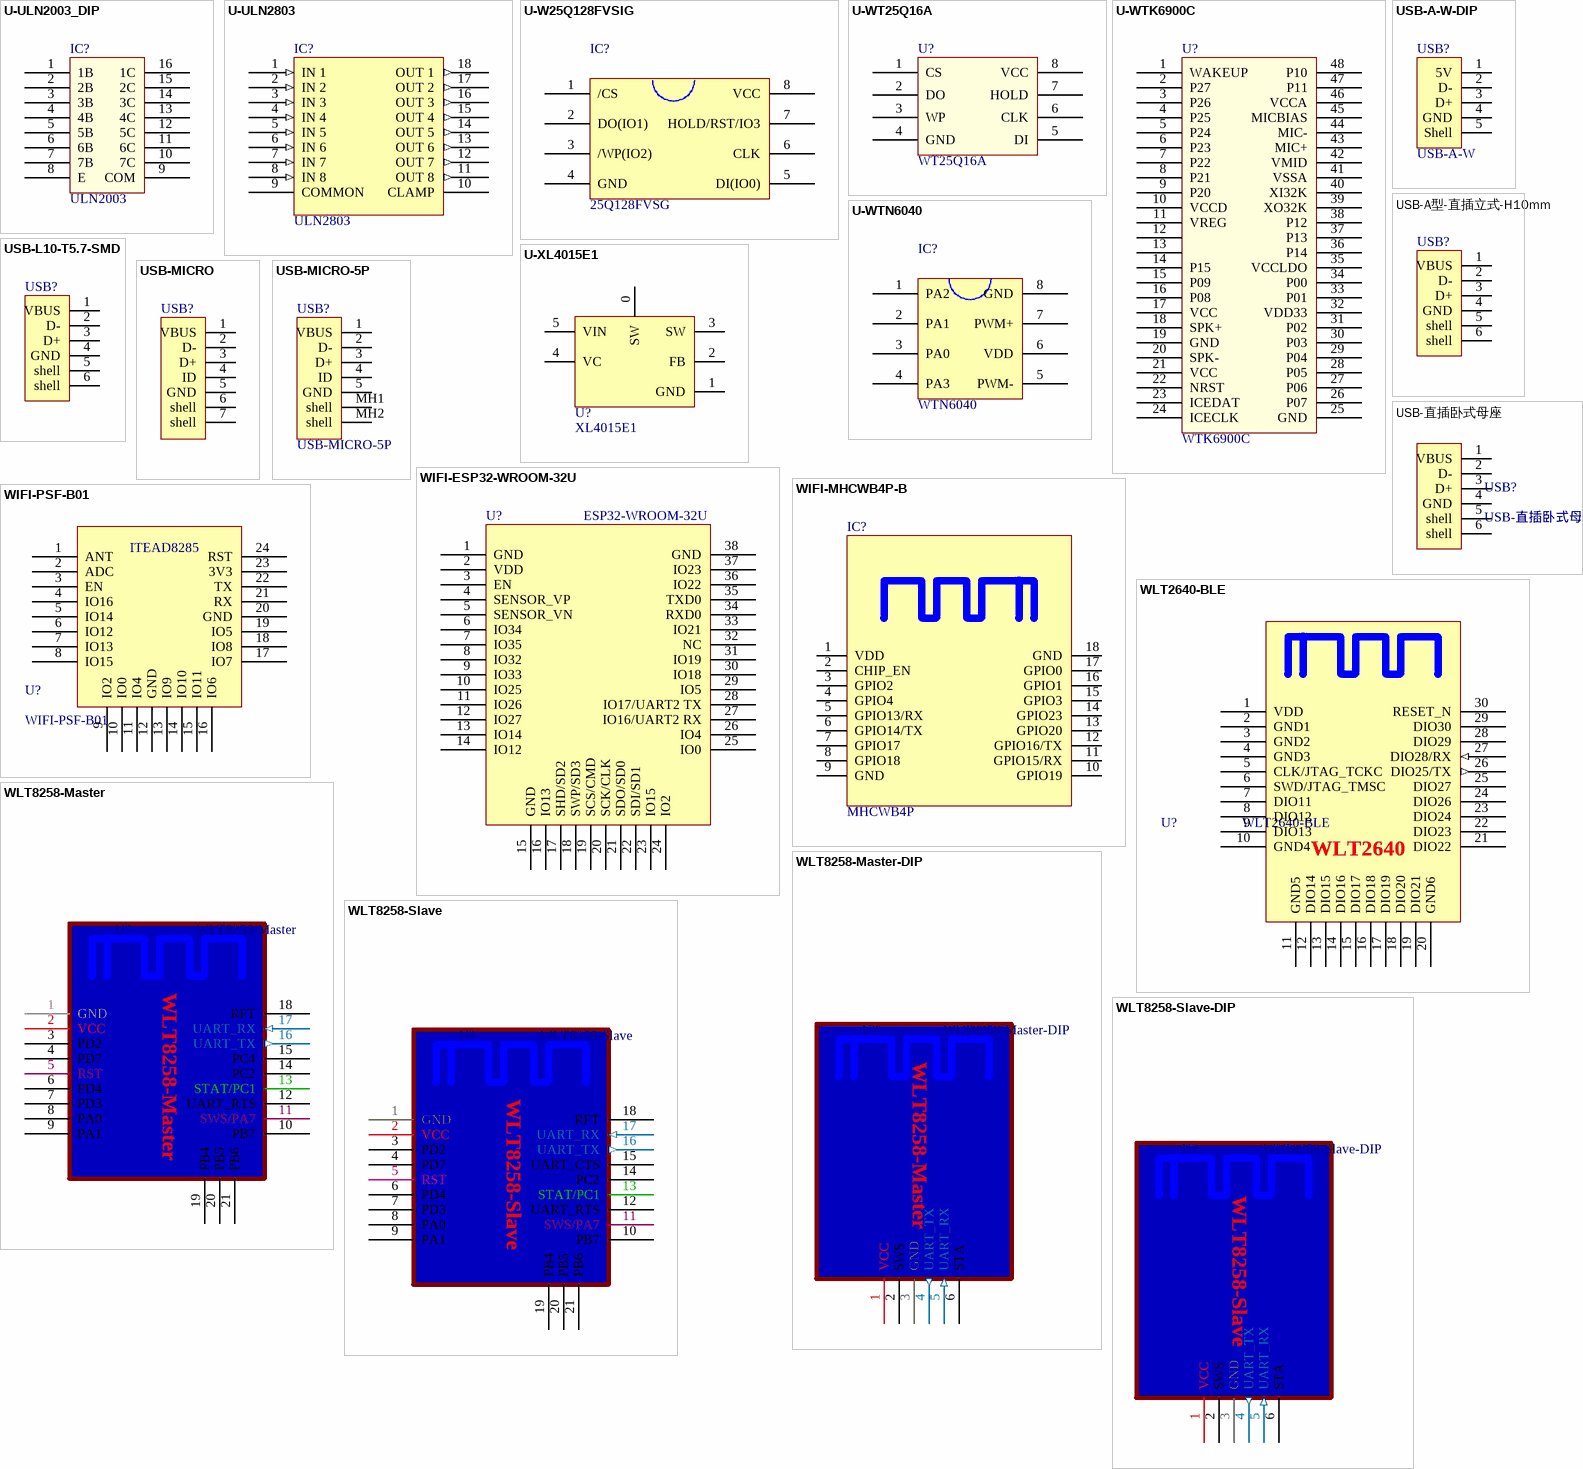
[diagram p20: symbols U-ULN2003_DIP to WLT8258-Slave-DIP]

## U-ULN2003_DIP
designator IC?, comment ULN2003
DIP16
footprint DIP16
pins: 1 1B, 2 2B, 3 3B, 4 4B, 5 5B, 6 6B, 7 7B, 8 E, 9 COM, 10 7C, 11 6C, 12 5C, 13 4C, 14 3C, 15 2C, 16 1C

## U-ULN2803
designator IC?, comment ULN2803
U-ULN2803-SOP18
footprint SOP18
pins: 1 IN 1 (in), 2 IN 2 (in), 3 IN 3 (in), 4 IN 4 (in), 5 IN 5 (in), 6 IN 6 (in), 7 IN 7 (in), 8 IN 8 (in), 9 COMMON, 10 CLAMP, 11 OUT 8 (out), 12 OUT 7 (out), 13 OUT 6 (out), 14 OUT 5 (out), 15 OUT 4 (out), 16 OUT 3 (out), 17 OUT 2 (out), 18 OUT 1 (out)

## U-W25Q128FVSIG
designator IC?, comment 25Q128FVSG
SOP8
footprint SOP8
pins: 1 /CS, 2 DO(IO1), 3 /WP(IO2), 4 GND, 5 DI(IO0), 6 CLK, 7 HOLD/RST/IO3, 8 VCC

## U-WT25Q16A
designator U?, comment WT25Q16A
SOP8
footprint SOP8
pins: 1 CS, 2 DO, 3 WP, 4 GND, 5 DI, 6 CLK, 7 HOLD, 8 VCC

## U-WTK6900C
designator U?, comment WTK6900C
LQFP48
footprint LQFP48-7*7 (芯片大小7×7mm)
pins: 1 WAKEUP, 2 P27, 3 P26, 4 P25, 5 P24, 6 P23, 7 P22, 8 P21, 9 P20, 10 VCCD, 11 VREG, 12, 13, 14 P15, 15 P09, 16 P08, 17 VCC, 18 SPK+, 19 GND, 20 SPK-, 21 VCC, 22 NRST, 23 ICEDAT, 24 ICECLK, 25 GND, 26 P07, 27 P06, 28 P05, 29 P04, 30 P03, 31 P02, 32 VDD33, 33 P01, 34 P00, 35 VCCLDO, 36 P14, 37 P13, 38 P12, 39 XO32K, 40 XI32K, 41 VSSA, 42 VMID, 43 MIC+, 44 MIC-, 45 MICBIAS, 46 VCCA, 47 P11, 48 P10

## U-WTN6040
designator IC?, comment WTN6040
SOP8
footprint SOP8
pins: 1 PA2, 2 PA1, 3 PA0, 4 PA3, 5 PWM-, 6 VDD, 7 PWM+, 8 GND

## U-XL4015E1
designator U?, comment XL4015E1
footprint LC-TO-263-5
pins: 0 SW, 1 GND, 2 FB, 3 SW, 4 VC, 5 VIN

## USB-A-W-DIP
designator USB?, comment USB-A-W
footprint USB-A-W
pins: 1 5V, 2 D-, 3 D+, 4 GND, 5 Shell

## USB-A型-直插立式-H10mm
designator USB?
footprint USB-A-H10
pins: 1 VBUS, 2 D-, 3 D+, 4 GND, 5 shell, 6 shell

## USB-L10-T5.7-SMD
designator USB?
footprint USB-L10-T5.7
pins: 1 VBUS, 2 D-, 3 D+, 4 GND, 5 shell, 6 shell

## USB-MICRO
designator USB?
USB-MICRO-5P
footprint USB-MICRO-SMD
pins: 1 VBUS, 2 D-, 3 D+, 4 ID, 5 GND, 6 shell, 7 shell

## USB-MICRO-5P
designator USB?
footprint MICRO USB
pins: 1 VBUS, 2 D-, 3 D+, 4 ID, 5 GND, MH1 shell, MH2 shell

## USB-直插卧式母座
designator USB?
footprint USB-直插卧式母座
pins: 1 VBUS, 2 D-, 3 D+, 4 GND, 5 shell, 6 shell

## WIFI-ESP32-WROOM-32U
designator U?, comment ESP32-WROOM-32U
SMD
footprint WIFI-ESP32-WROOM-32U
pins: 1 GND, 2 VDD, 3 EN, 4 SENSOR_VP, 5 SENSOR_VN, 6 IO34, 7 IO35, 8 IO32, 9 IO33, 10 IO25, 11 IO26, 12 IO27, 13 IO14, 14 IO12, 15 GND, 16 IO13, 17 SHD/SD2, 18 SWP/SD3, 19 SCS/CMD, 20 SCK/CLK, 21 SDO/SD0, 22 SDI/SD1, 23 IO15, 24 IO2, 25 IO0, 26 IO4, 27 IO16/UART2 RX, 28 IO17/UART2 TX, 29 IO5, 30 IO18, 31 IO19, 32 NC, 33 IO21, 34 RXD0, 35 TXD0, 36 IO22, 37 IO23, 38 GND

## WIFI-MHCWB4P-B
designator IC?, comment MHCWB4P
footprint WIFI-MHCWB4P-B
pins: 1 VDD, 2 CHIP_EN, 3 GPIO2, 4 GPIO4, 5 GPIO13/RX, 6 GPIO14/TX, 7 GPIO17, 8 GPIO18, 9 GND, 10 GPIO19, 11 GPIO15/RX, 12 GPIO16/TX, 13 GPIO20, 14 GPIO23, 15 GPIO3, 16 GPIO1, 17 GPIO0, 18 GND

## WIFI-PSF-B01
designator U?
footprint WIFI-PSF-B01
pins: 1 ANT, 2 ADC, 3 EN, 4 IO16, 5 IO14, 6 IO12, 7 IO13, 8 IO15, 9 IO2, 10 IO0, 11 IO4, 12 GND, 13 IO9, 14 IO10, 15 IO11, 16 IO6, 17 IO7, 18 IO8, 19 IO5, 20 GND, 21 RX, 22 TX, 23 3V3, 24 RST
text: ITEAD8285

## WLT2640-BLE
designator U?
footprint WLT-30
pins: 1 VDD, 2 GND1, 3 GND2, 4 GND3, 5 CLK/JTAG_TCKC, 6 SWD/JTAG_TMSC, 7 DIO11, 8 DIO12, 9 DIO13, 10 GND4, 11 GND5, 12 DIO14, 13 DIO15, 14 DIO16, 15 DIO17, 16 DIO18, 17 DIO19, 18 DIO20, 19 DIO21, 20 GND6, 21 DIO22, 22 DIO23, 23 DIO24, 24 DIO26, 25 DIO27, 26 DIO25/TX (out), 27 DIO28/RX (in), 28 DIO29, 29 DIO30, 30 RESET_N
text: WLT2640

## WLT8258-Master
designator U?
footprint WLT8258-Master
pins: 1 GND, 2 VCC, 3 PD2, 4 PD7, 5 RST, 6 PD4, 7 PD3, 8 PA0, 9 PA1, 10 PB7, 11 SWS/PA7, 12 UART_RTS, 13 STAT/PC1, 14 PC2, 15 PC4, 16 UART_TX (out), 17 UART_RX (in), 18 RFT, 19 PB4, 20 PB5, 21 PB6

## WLT8258-Master-DIP
designator U?
footprint WLT8258-Master-DIP
pins: 1 VCC, 2 SWS, 3 GND, 4 UART_TX (out), 5 UART_RX (in), 6 STA
text: WLT8258-Master

## WLT8258-Slave
designator U?
footprint WLT8258-Slaver
pins: 1 GND, 2 VCC, 3 PD2, 4 PD7, 5 RST, 6 PD4, 7 PD3, 8 PA0, 9 PA1, 10 PB7, 11 SWS/PA7, 12 UART_RTS, 13 STAT/PC1, 14 PC2, 15 UART_CTS, 16 UART_TX (out), 17 UART_RX (in), 18 RFT, 19 PB4, 20 PB5, 21 PB6

## WLT8258-Slave-DIP
designator U?
footprint WLT8258-SLAVER-DIP
pins: 1 VCC, 2 SWS, 3 GND, 4 UART_TX (out), 5 UART_RX (in), 6 STA
text: WLT8258-Slave

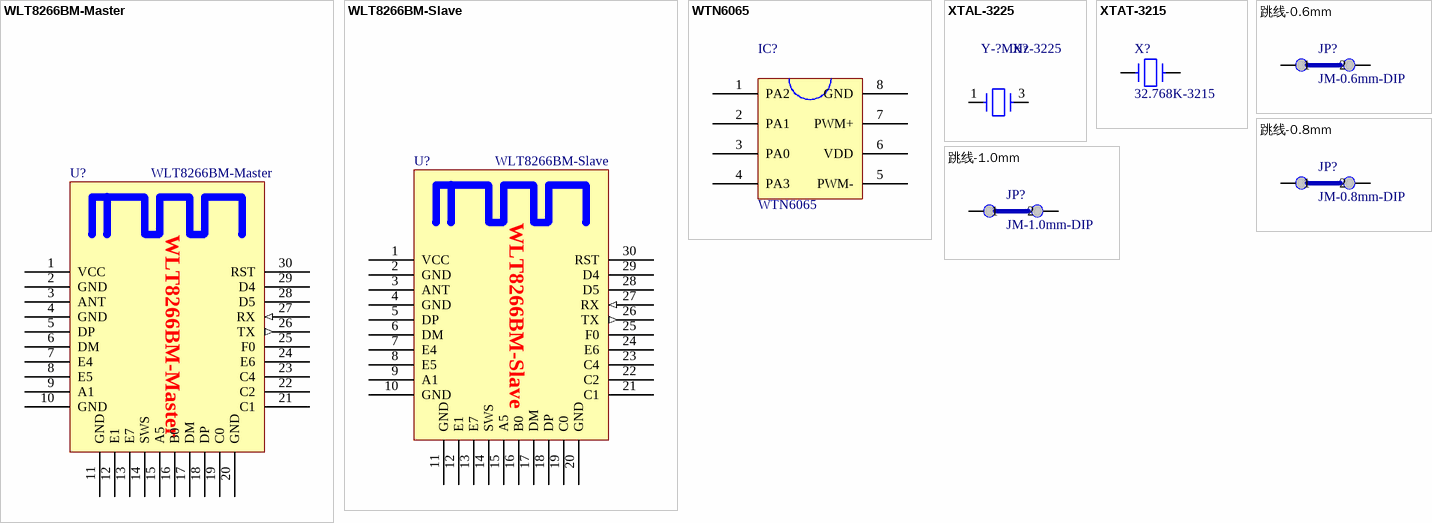
[diagram p21: symbols WLT8266BM-Master to 跳线-1.0mm]

## WLT8266BM-Master
designator U?
footprint WLT8266-MASTER
pins: 1 VCC, 2 GND, 3 ANT, 4 GND, 5 DP, 6 DM, 7 E4, 8 E5, 9 A1, 10 GND, 11 GND, 12 E1, 13 E7, 14 SWS, 15 A5, 16 B0, 17 DM, 18 DP, 19 C0, 20 GND, 21 C1, 22 C2, 23 C4, 24 E6, 25 F0, 26 TX (out), 27 RX (in), 28 D5, 29 D4, 30 RST

## WLT8266BM-Slave
designator U?
footprint WLT8266-SLAVER
pins: 1 VCC, 2 GND, 3 ANT, 4 GND, 5 DP, 6 DM, 7 E4, 8 E5, 9 A1, 10 GND, 11 GND, 12 E1, 13 E7, 14 SWS, 15 A5, 16 B0, 17 DM, 18 DP, 19 C0, 20 GND, 21 C1, 22 C2, 23 C4, 24 E6, 25 F0, 26 TX (out), 27 RX (in), 28 D5, 29 D4, 30 RST

## WTN6065
designator IC?
footprint SOIC 208
footprint SOP8
pins: 1 PA2, 2 PA1, 3 PA0, 4 PA3, 5 PWM-, 6 VDD, 7 PWM+, 8 GND

## XTAL-3225
designator X?, comment Y-?MHz-3225
Y-?MHz-?PF-3225
footprint XTAL-3225
pins: 1 IN, 2 GND hidden to GND, 3 OUT, 4 GND hidden to GND

## XTAT-3215
designator X?, comment 32.768K-3215
Y-32.768KHZ-6PF-3215
footprint XTAL-3215-2P
pins: 1, 2
2 alternate drawings of the same symbol

## 跳线-0.6mm
designator JP?, comment JM-0.6mm-DIP
footprint JP-0.6mm-P10
footprint JP-0.6mm-P12.5
footprint JP-0.6mm-P15
pins: 1, 2

## 跳线-0.8mm
designator JP?, comment JM-0.8mm-DIP
footprint JP-0.8mm-P10
footprint JP-0.8mm-P12.5
footprint JP-0.8mm-P15
pins: 1, 2

## 跳线-1.0mm
designator JP?, comment JM-1.0mm-DIP
footprint JP-1.0mm-P10
footprint JP-1.0mm-P12.5
footprint JP-1.0mm-P15
pins: 1, 2